# Altium integrated library Lattice FPGA ECP2.IntLib: 320 symbols (part 19 of 41)
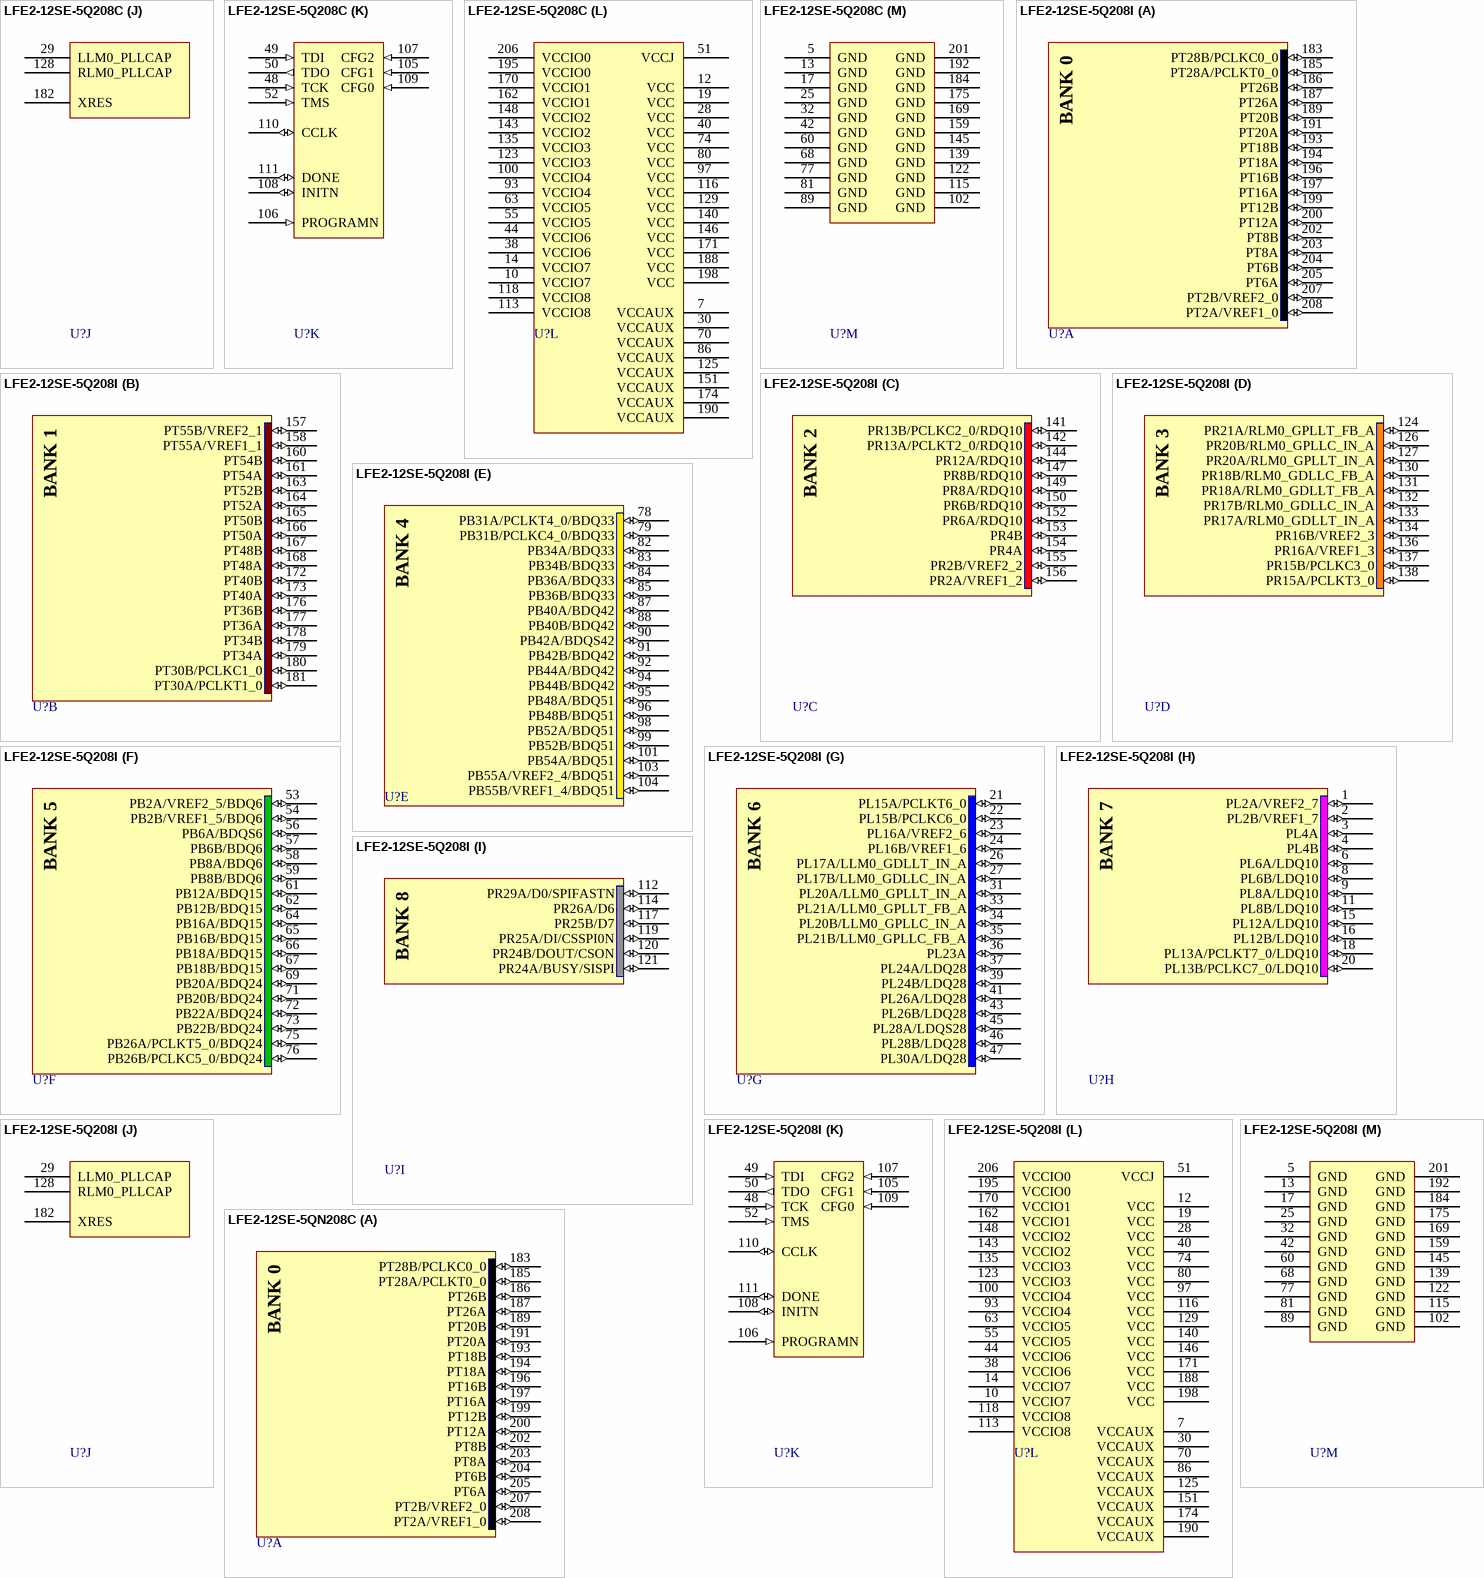
[diagram p409: symbols LFE2-12SE-5Q208C to LFE2-12SE-5QN208C]

## LFE2-12SE-5Q208C
designator U?
ECP2 1.2V FPGA, Security Series, 131 I/Os, 12K LUTs, 208-Pin PQFP, Speed Grade 5, Commercial Grade; DatasheetVersion: ver04.3, Mar-2009; PackageVersion: ver01.8, Dec-2008; PackageReference: PQFP208; PackageDescription: 208-Pin Plastic Quad Flat Pack (PQFP208); Code_JEDEC: MO-143-FAI; ComponentLink1Description: Manufacturer URL; ComponentLink1URL: http://www.latticesemi.com/; ComponentLink2Description: Datasheet; ComponentLink2URL: http://www.latticesemi.com/documents/HB1003.pdf
footprint PQFP208_N (Shrink QFP, 208-Leads, Body 28x28mm, Pitch 0.5mm, IPC Medium Density)
footprint PQFP208_L (Shrink QFP, 208-Leads, Body 28x28mm, Pitch 0.5mm, IPC High Density)
footprint PQFP208_M (Shrink QFP, 208-Leads, Body 28x28mm, Pitch 0.5mm, IPC Low Density)
part A pins: 183 PT28B/PCLKC0_0 (io), 185 PT28A/PCLKT0_0 (io), 186 PT26B (io), 187 PT26A (io), 189 PT20B (io), 191 PT20A (io), 193 PT18B (io), 194 PT18A (io), 196 PT16B (io), 197 PT16A (io), 199 PT12B (io), 200 PT12A (io), 202 PT8B (io), 203 PT8A (io), 204 PT6B (io), 205 PT6A (io), 207 PT2B/VREF2_0 (io), 208 PT2A/VREF1_0 (io)
part B pins: 157 PT55B/VREF2_1 (io), 158 PT55A/VREF1_1 (io), 160 PT54B (io), 161 PT54A (io), 163 PT52B (io), 164 PT52A (io), 165 PT50B (io), 166 PT50A (io), 167 PT48B (io), 168 PT48A (io), 172 PT40B (io), 173 PT40A (io), 176 PT36B (io), 177 PT36A (io), 178 PT34B (io), 179 PT34A (io), 180 PT30B/PCLKC1_0 (io), 181 PT30A/PCLKT1_0 (io)
part C pins: 141 PR13B/PCLKC2_0/RDQ10 (io), 142 PR13A/PCLKT2_0/RDQ10 (io), 144 PR12A/RDQ10 (io), 147 PR8B/RDQ10 (io), 149 PR8A/RDQ10 (io), 150 PR6B/RDQ10 (io), 152 PR6A/RDQ10 (io), 153 PR4B (io), 154 PR4A (io), 155 PR2B/VREF2_2 (io), 156 PR2A/VREF1_2 (io)
part D pins: 124 PR21A/RLM0_GPLLT_FB_A (io), 126 PR20B/RLM0_GPLLC_IN_A (io), 127 PR20A/RLM0_GPLLT_IN_A (io), 130 PR18B/RLM0_GDLLC_FB_A (io), 131 PR18A/RLM0_GDLLT_FB_A (io), 132 PR17B/RLM0_GDLLC_IN_A (io), 133 PR17A/RLM0_GDLLT_IN_A (io), 134 PR16B/VREF2_3 (io), 136 PR16A/VREF1_3 (io), 137 PR15B/PCLKC3_0 (io), 138 PR15A/PCLKT3_0 (io)
part E pins: 78 PB31A/PCLKT4_0/BDQ33 (io), 79 PB31B/PCLKC4_0/BDQ33 (io), 82 PB34A/BDQ33 (io), 83 PB34B/BDQ33 (io), 84 PB36A/BDQ33 (io), 85 PB36B/BDQ33 (io), 87 PB40A/BDQ42 (io), 88 PB40B/BDQ42 (io), 90 PB42A/BDQS42 (io), 91 PB42B/BDQ42 (io), 92 PB44A/BDQ42 (io), 94 PB44B/BDQ42 (io), 95 PB48A/BDQ51 (io), 96 PB48B/BDQ51 (io), 98 PB52A/BDQ51 (io), 99 PB52B/BDQ51 (io), 101 PB54A/BDQ51 (io), 103 PB55A/VREF2_4/BDQ51 (io), 104 PB55B/VREF1_4/BDQ51 (io)
part F pins: 53 PB2A/VREF2_5/BDQ6 (io), 54 PB2B/VREF1_5/BDQ6 (io), 56 PB6A/BDQS6 (io), 57 PB6B/BDQ6 (io), 58 PB8A/BDQ6 (io), 59 PB8B/BDQ6 (io), 61 PB12A/BDQ15 (io), 62 PB12B/BDQ15 (io), 64 PB16A/BDQ15 (io), 65 PB16B/BDQ15 (io), 66 PB18A/BDQ15 (io), 67 PB18B/BDQ15 (io), 69 PB20A/BDQ24 (io), 71 PB20B/BDQ24 (io), 72 PB22A/BDQ24 (io), 73 PB22B/BDQ24 (io), 75 PB26A/PCLKT5_0/BDQ24 (io), 76 PB26B/PCLKC5_0/BDQ24 (io)
part G pins: 21 PL15A/PCLKT6_0 (io), 22 PL15B/PCLKC6_0 (io), 23 PL16A/VREF2_6 (io), 24 PL16B/VREF1_6 (io), 26 PL17A/LLM0_GDLLT_IN_A (io), 27 PL17B/LLM0_GDLLC_IN_A (io), 31 PL20A/LLM0_GPLLT_IN_A (io), 33 PL21A/LLM0_GPLLT_FB_A (io), 34 PL20B/LLM0_GPLLC_IN_A (io), 35 PL21B/LLM0_GPLLC_FB_A (io), 36 PL23A (io), 37 PL24A/LDQ28 (io), 39 PL24B/LDQ28 (io), 41 PL26A/LDQ28 (io), 43 PL26B/LDQ28 (io), 45 PL28A/LDQS28 (io), 46 PL28B/LDQ28 (io), 47 PL30A/LDQ28 (io)
part H pins: 1 PL2A/VREF2_7 (io), 2 PL2B/VREF1_7 (io), 3 PL4A (io), 4 PL4B (io), 6 PL6A/LDQ10 (io), 8 PL6B/LDQ10 (io), 9 PL8A/LDQ10 (io), 11 PL8B/LDQ10 (io), 15 PL12A/LDQ10 (io), 16 PL12B/LDQ10 (io), 18 PL13A/PCLKT7_0/LDQ10 (io), 20 PL13B/PCLKC7_0/LDQ10 (io)
part I pins: 112 PR29A/D0/SPIFASTN (io), 114 PR26A/D6 (io), 117 PR25B/D7 (io), 119 PR25A/DI/CSSPI0N (io), 120 PR24B/DOUT/CSON (io), 121 PR24A/BUSY/SISPI (io)
part J pins: 29 LLM0_PLLCAP, 128 RLM0_PLLCAP, 182 XRES
part K pins: 48 TCK (in), 49 TDI (in), 50 TDO (out), 52 TMS (in), 105 CFG1 (in), 106 PROGRAMN (in), 107 CFG2 (in), 108 INITN (io), 109 CFG0 (in), 110 CCLK (io), 111 DONE (io)
part L pins: 7 VCCAUX (power), 10 VCCIO7 (power), 12 VCC (power), 14 VCCIO7 (power), 19 VCC (power), 28 VCC (power), 30 VCCAUX (power), 38 VCCIO6 (power), 40 VCC (power), 44 VCCIO6 (power), 51 VCCJ (power), 55 VCCIO5 (power), 63 VCCIO5 (power), 70 VCCAUX (power), 74 VCC (power), 80 VCC (power), 86 VCCAUX (power), 93 VCCIO4 (power), 97 VCC (power), 100 VCCIO4 (power), 113 VCCIO8 (power), 116 VCC (power), 118 VCCIO8 (power), 123 VCCIO3 (power), 125 VCCAUX (power), 129 VCC (power), 135 VCCIO3 (power), 140 VCC (power), 143 VCCIO2 (power), 146 VCC (power), 148 VCCIO2 (power), 151 VCCAUX (power), 162 VCCIO1 (power), 170 VCCIO1 (power), 171 VCC (power), 174 VCCAUX (power), 188 VCC (power), 190 VCCAUX (power), 195 VCCIO0 (power), 198 VCC (power), 206 VCCIO0 (power)
part M pins: 5 GND (power), 13 GND (power), 17 GND (power), 25 GND (power), 32 GND (power), 42 GND (power), 60 GND (power), 68 GND (power), 77 GND (power), 81 GND (power), 89 GND (power), 102 GND (power), 115 GND (power), 122 GND (power), 139 GND (power), 145 GND (power), 159 GND (power), 169 GND (power), 175 GND (power), 184 GND (power), 192 GND (power), 201 GND (power)
part A text: BANK 0
part B text: BANK 1
part C text: BANK 2
part D text: BANK 3
part E text: BANK 4
part F text: BANK 5
part G text: BANK 6
part H text: BANK 7
part I text: BANK 8

## LFE2-12SE-5Q208I
designator U?
ECP2 1.2V FPGA, Security Series, 131 I/Os, 12K LUTs, 208-Pin PQFP, Speed Grade 5, Industrial Grade; DatasheetVersion: ver04.3, Mar-2009; PackageVersion: ver01.8, Dec-2008; PackageReference: PQFP208; PackageDescription: 208-Pin Plastic Quad Flat Pack (PQFP208); Code_JEDEC: MO-143-FAI; ComponentLink1Description: Manufacturer URL; ComponentLink1URL: http://www.latticesemi.com/; ComponentLink2Description: Datasheet; ComponentLink2URL: http://www.latticesemi.com/documents/HB1003.pdf
footprint PQFP208_N (Shrink QFP, 208-Leads, Body 28x28mm, Pitch 0.5mm, IPC Medium Density)
footprint PQFP208_L (Shrink QFP, 208-Leads, Body 28x28mm, Pitch 0.5mm, IPC High Density)
footprint PQFP208_M (Shrink QFP, 208-Leads, Body 28x28mm, Pitch 0.5mm, IPC Low Density)
part A pins: 183 PT28B/PCLKC0_0 (io), 185 PT28A/PCLKT0_0 (io), 186 PT26B (io), 187 PT26A (io), 189 PT20B (io), 191 PT20A (io), 193 PT18B (io), 194 PT18A (io), 196 PT16B (io), 197 PT16A (io), 199 PT12B (io), 200 PT12A (io), 202 PT8B (io), 203 PT8A (io), 204 PT6B (io), 205 PT6A (io), 207 PT2B/VREF2_0 (io), 208 PT2A/VREF1_0 (io)
part B pins: 157 PT55B/VREF2_1 (io), 158 PT55A/VREF1_1 (io), 160 PT54B (io), 161 PT54A (io), 163 PT52B (io), 164 PT52A (io), 165 PT50B (io), 166 PT50A (io), 167 PT48B (io), 168 PT48A (io), 172 PT40B (io), 173 PT40A (io), 176 PT36B (io), 177 PT36A (io), 178 PT34B (io), 179 PT34A (io), 180 PT30B/PCLKC1_0 (io), 181 PT30A/PCLKT1_0 (io)
part C pins: 141 PR13B/PCLKC2_0/RDQ10 (io), 142 PR13A/PCLKT2_0/RDQ10 (io), 144 PR12A/RDQ10 (io), 147 PR8B/RDQ10 (io), 149 PR8A/RDQ10 (io), 150 PR6B/RDQ10 (io), 152 PR6A/RDQ10 (io), 153 PR4B (io), 154 PR4A (io), 155 PR2B/VREF2_2 (io), 156 PR2A/VREF1_2 (io)
part D pins: 124 PR21A/RLM0_GPLLT_FB_A (io), 126 PR20B/RLM0_GPLLC_IN_A (io), 127 PR20A/RLM0_GPLLT_IN_A (io), 130 PR18B/RLM0_GDLLC_FB_A (io), 131 PR18A/RLM0_GDLLT_FB_A (io), 132 PR17B/RLM0_GDLLC_IN_A (io), 133 PR17A/RLM0_GDLLT_IN_A (io), 134 PR16B/VREF2_3 (io), 136 PR16A/VREF1_3 (io), 137 PR15B/PCLKC3_0 (io), 138 PR15A/PCLKT3_0 (io)
part E pins: 78 PB31A/PCLKT4_0/BDQ33 (io), 79 PB31B/PCLKC4_0/BDQ33 (io), 82 PB34A/BDQ33 (io), 83 PB34B/BDQ33 (io), 84 PB36A/BDQ33 (io), 85 PB36B/BDQ33 (io), 87 PB40A/BDQ42 (io), 88 PB40B/BDQ42 (io), 90 PB42A/BDQS42 (io), 91 PB42B/BDQ42 (io), 92 PB44A/BDQ42 (io), 94 PB44B/BDQ42 (io), 95 PB48A/BDQ51 (io), 96 PB48B/BDQ51 (io), 98 PB52A/BDQ51 (io), 99 PB52B/BDQ51 (io), 101 PB54A/BDQ51 (io), 103 PB55A/VREF2_4/BDQ51 (io), 104 PB55B/VREF1_4/BDQ51 (io)
part F pins: 53 PB2A/VREF2_5/BDQ6 (io), 54 PB2B/VREF1_5/BDQ6 (io), 56 PB6A/BDQS6 (io), 57 PB6B/BDQ6 (io), 58 PB8A/BDQ6 (io), 59 PB8B/BDQ6 (io), 61 PB12A/BDQ15 (io), 62 PB12B/BDQ15 (io), 64 PB16A/BDQ15 (io), 65 PB16B/BDQ15 (io), 66 PB18A/BDQ15 (io), 67 PB18B/BDQ15 (io), 69 PB20A/BDQ24 (io), 71 PB20B/BDQ24 (io), 72 PB22A/BDQ24 (io), 73 PB22B/BDQ24 (io), 75 PB26A/PCLKT5_0/BDQ24 (io), 76 PB26B/PCLKC5_0/BDQ24 (io)
part G pins: 21 PL15A/PCLKT6_0 (io), 22 PL15B/PCLKC6_0 (io), 23 PL16A/VREF2_6 (io), 24 PL16B/VREF1_6 (io), 26 PL17A/LLM0_GDLLT_IN_A (io), 27 PL17B/LLM0_GDLLC_IN_A (io), 31 PL20A/LLM0_GPLLT_IN_A (io), 33 PL21A/LLM0_GPLLT_FB_A (io), 34 PL20B/LLM0_GPLLC_IN_A (io), 35 PL21B/LLM0_GPLLC_FB_A (io), 36 PL23A (io), 37 PL24A/LDQ28 (io), 39 PL24B/LDQ28 (io), 41 PL26A/LDQ28 (io), 43 PL26B/LDQ28 (io), 45 PL28A/LDQS28 (io), 46 PL28B/LDQ28 (io), 47 PL30A/LDQ28 (io)
part H pins: 1 PL2A/VREF2_7 (io), 2 PL2B/VREF1_7 (io), 3 PL4A (io), 4 PL4B (io), 6 PL6A/LDQ10 (io), 8 PL6B/LDQ10 (io), 9 PL8A/LDQ10 (io), 11 PL8B/LDQ10 (io), 15 PL12A/LDQ10 (io), 16 PL12B/LDQ10 (io), 18 PL13A/PCLKT7_0/LDQ10 (io), 20 PL13B/PCLKC7_0/LDQ10 (io)
part I pins: 112 PR29A/D0/SPIFASTN (io), 114 PR26A/D6 (io), 117 PR25B/D7 (io), 119 PR25A/DI/CSSPI0N (io), 120 PR24B/DOUT/CSON (io), 121 PR24A/BUSY/SISPI (io)
part J pins: 29 LLM0_PLLCAP, 128 RLM0_PLLCAP, 182 XRES
part K pins: 48 TCK (in), 49 TDI (in), 50 TDO (out), 52 TMS (in), 105 CFG1 (in), 106 PROGRAMN (in), 107 CFG2 (in), 108 INITN (io), 109 CFG0 (in), 110 CCLK (io), 111 DONE (io)
part L pins: 7 VCCAUX (power), 10 VCCIO7 (power), 12 VCC (power), 14 VCCIO7 (power), 19 VCC (power), 28 VCC (power), 30 VCCAUX (power), 38 VCCIO6 (power), 40 VCC (power), 44 VCCIO6 (power), 51 VCCJ (power), 55 VCCIO5 (power), 63 VCCIO5 (power), 70 VCCAUX (power), 74 VCC (power), 80 VCC (power), 86 VCCAUX (power), 93 VCCIO4 (power), 97 VCC (power), 100 VCCIO4 (power), 113 VCCIO8 (power), 116 VCC (power), 118 VCCIO8 (power), 123 VCCIO3 (power), 125 VCCAUX (power), 129 VCC (power), 135 VCCIO3 (power), 140 VCC (power), 143 VCCIO2 (power), 146 VCC (power), 148 VCCIO2 (power), 151 VCCAUX (power), 162 VCCIO1 (power), 170 VCCIO1 (power), 171 VCC (power), 174 VCCAUX (power), 188 VCC (power), 190 VCCAUX (power), 195 VCCIO0 (power), 198 VCC (power), 206 VCCIO0 (power)
part M pins: 5 GND (power), 13 GND (power), 17 GND (power), 25 GND (power), 32 GND (power), 42 GND (power), 60 GND (power), 68 GND (power), 77 GND (power), 81 GND (power), 89 GND (power), 102 GND (power), 115 GND (power), 122 GND (power), 139 GND (power), 145 GND (power), 159 GND (power), 169 GND (power), 175 GND (power), 184 GND (power), 192 GND (power), 201 GND (power)
part A text: BANK 0
part B text: BANK 1
part C text: BANK 2
part D text: BANK 3
part E text: BANK 4
part F text: BANK 5
part G text: BANK 6
part H text: BANK 7
part I text: BANK 8

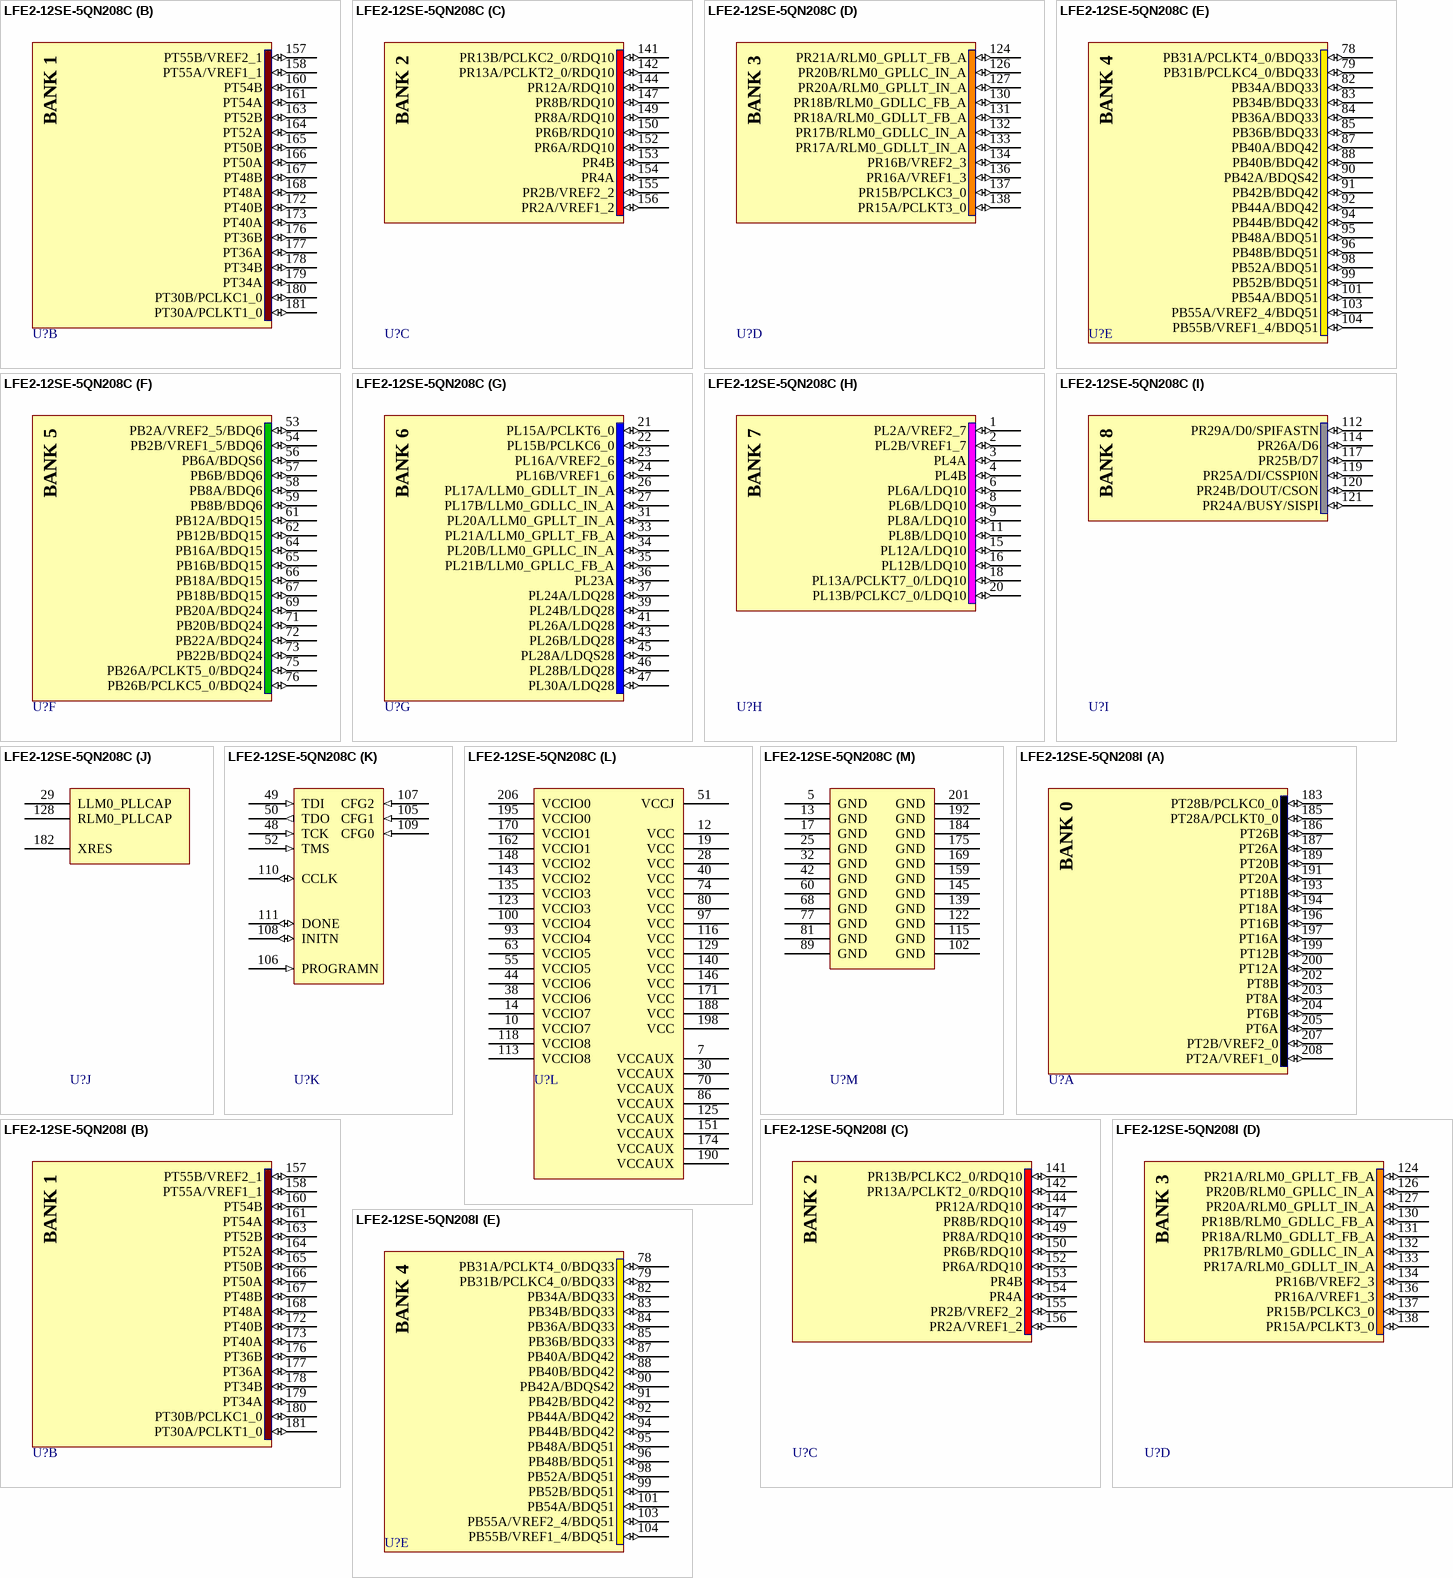
[diagram p99: symbols LFE2-12SE-5QN208C to LFE2-12SE-5QN208I]

## LFE2-12SE-5QN208C
designator U?
ECP2 1.2V FPGA, Security Series, 131 I/Os, 12K LUTs, 208-Pin PQFP, Speed Grade 5, Commercial Grade, Pb-Free; DatasheetVersion: ver04.3, Mar-2009; PackageVersion: ver01.8, Dec-2008; PackageReference: PQFP208; PackageDescription: 208-Pin Plastic Quad Flat Pack (PQFP208); Code_JEDEC: MO-143-FAI; ComponentLink1Description: Manufacturer URL; ComponentLink1URL: http://www.latticesemi.com/; ComponentLink2Description: Datasheet; ComponentLink2URL: http://www.latticesemi.com/documents/HB1003.pdf
footprint PQFP208_N (Shrink QFP, 208-Leads, Body 28x28mm, Pitch 0.5mm, IPC Medium Density)
footprint PQFP208_L (Shrink QFP, 208-Leads, Body 28x28mm, Pitch 0.5mm, IPC High Density)
footprint PQFP208_M (Shrink QFP, 208-Leads, Body 28x28mm, Pitch 0.5mm, IPC Low Density)
part A pins: 183 PT28B/PCLKC0_0 (io), 185 PT28A/PCLKT0_0 (io), 186 PT26B (io), 187 PT26A (io), 189 PT20B (io), 191 PT20A (io), 193 PT18B (io), 194 PT18A (io), 196 PT16B (io), 197 PT16A (io), 199 PT12B (io), 200 PT12A (io), 202 PT8B (io), 203 PT8A (io), 204 PT6B (io), 205 PT6A (io), 207 PT2B/VREF2_0 (io), 208 PT2A/VREF1_0 (io)
part B pins: 157 PT55B/VREF2_1 (io), 158 PT55A/VREF1_1 (io), 160 PT54B (io), 161 PT54A (io), 163 PT52B (io), 164 PT52A (io), 165 PT50B (io), 166 PT50A (io), 167 PT48B (io), 168 PT48A (io), 172 PT40B (io), 173 PT40A (io), 176 PT36B (io), 177 PT36A (io), 178 PT34B (io), 179 PT34A (io), 180 PT30B/PCLKC1_0 (io), 181 PT30A/PCLKT1_0 (io)
part C pins: 141 PR13B/PCLKC2_0/RDQ10 (io), 142 PR13A/PCLKT2_0/RDQ10 (io), 144 PR12A/RDQ10 (io), 147 PR8B/RDQ10 (io), 149 PR8A/RDQ10 (io), 150 PR6B/RDQ10 (io), 152 PR6A/RDQ10 (io), 153 PR4B (io), 154 PR4A (io), 155 PR2B/VREF2_2 (io), 156 PR2A/VREF1_2 (io)
part D pins: 124 PR21A/RLM0_GPLLT_FB_A (io), 126 PR20B/RLM0_GPLLC_IN_A (io), 127 PR20A/RLM0_GPLLT_IN_A (io), 130 PR18B/RLM0_GDLLC_FB_A (io), 131 PR18A/RLM0_GDLLT_FB_A (io), 132 PR17B/RLM0_GDLLC_IN_A (io), 133 PR17A/RLM0_GDLLT_IN_A (io), 134 PR16B/VREF2_3 (io), 136 PR16A/VREF1_3 (io), 137 PR15B/PCLKC3_0 (io), 138 PR15A/PCLKT3_0 (io)
part E pins: 78 PB31A/PCLKT4_0/BDQ33 (io), 79 PB31B/PCLKC4_0/BDQ33 (io), 82 PB34A/BDQ33 (io), 83 PB34B/BDQ33 (io), 84 PB36A/BDQ33 (io), 85 PB36B/BDQ33 (io), 87 PB40A/BDQ42 (io), 88 PB40B/BDQ42 (io), 90 PB42A/BDQS42 (io), 91 PB42B/BDQ42 (io), 92 PB44A/BDQ42 (io), 94 PB44B/BDQ42 (io), 95 PB48A/BDQ51 (io), 96 PB48B/BDQ51 (io), 98 PB52A/BDQ51 (io), 99 PB52B/BDQ51 (io), 101 PB54A/BDQ51 (io), 103 PB55A/VREF2_4/BDQ51 (io), 104 PB55B/VREF1_4/BDQ51 (io)
part F pins: 53 PB2A/VREF2_5/BDQ6 (io), 54 PB2B/VREF1_5/BDQ6 (io), 56 PB6A/BDQS6 (io), 57 PB6B/BDQ6 (io), 58 PB8A/BDQ6 (io), 59 PB8B/BDQ6 (io), 61 PB12A/BDQ15 (io), 62 PB12B/BDQ15 (io), 64 PB16A/BDQ15 (io), 65 PB16B/BDQ15 (io), 66 PB18A/BDQ15 (io), 67 PB18B/BDQ15 (io), 69 PB20A/BDQ24 (io), 71 PB20B/BDQ24 (io), 72 PB22A/BDQ24 (io), 73 PB22B/BDQ24 (io), 75 PB26A/PCLKT5_0/BDQ24 (io), 76 PB26B/PCLKC5_0/BDQ24 (io)
part G pins: 21 PL15A/PCLKT6_0 (io), 22 PL15B/PCLKC6_0 (io), 23 PL16A/VREF2_6 (io), 24 PL16B/VREF1_6 (io), 26 PL17A/LLM0_GDLLT_IN_A (io), 27 PL17B/LLM0_GDLLC_IN_A (io), 31 PL20A/LLM0_GPLLT_IN_A (io), 33 PL21A/LLM0_GPLLT_FB_A (io), 34 PL20B/LLM0_GPLLC_IN_A (io), 35 PL21B/LLM0_GPLLC_FB_A (io), 36 PL23A (io), 37 PL24A/LDQ28 (io), 39 PL24B/LDQ28 (io), 41 PL26A/LDQ28 (io), 43 PL26B/LDQ28 (io), 45 PL28A/LDQS28 (io), 46 PL28B/LDQ28 (io), 47 PL30A/LDQ28 (io)
part H pins: 1 PL2A/VREF2_7 (io), 2 PL2B/VREF1_7 (io), 3 PL4A (io), 4 PL4B (io), 6 PL6A/LDQ10 (io), 8 PL6B/LDQ10 (io), 9 PL8A/LDQ10 (io), 11 PL8B/LDQ10 (io), 15 PL12A/LDQ10 (io), 16 PL12B/LDQ10 (io), 18 PL13A/PCLKT7_0/LDQ10 (io), 20 PL13B/PCLKC7_0/LDQ10 (io)
part I pins: 112 PR29A/D0/SPIFASTN (io), 114 PR26A/D6 (io), 117 PR25B/D7 (io), 119 PR25A/DI/CSSPI0N (io), 120 PR24B/DOUT/CSON (io), 121 PR24A/BUSY/SISPI (io)
part J pins: 29 LLM0_PLLCAP, 128 RLM0_PLLCAP, 182 XRES
part K pins: 48 TCK (in), 49 TDI (in), 50 TDO (out), 52 TMS (in), 105 CFG1 (in), 106 PROGRAMN (in), 107 CFG2 (in), 108 INITN (io), 109 CFG0 (in), 110 CCLK (io), 111 DONE (io)
part L pins: 7 VCCAUX (power), 10 VCCIO7 (power), 12 VCC (power), 14 VCCIO7 (power), 19 VCC (power), 28 VCC (power), 30 VCCAUX (power), 38 VCCIO6 (power), 40 VCC (power), 44 VCCIO6 (power), 51 VCCJ (power), 55 VCCIO5 (power), 63 VCCIO5 (power), 70 VCCAUX (power), 74 VCC (power), 80 VCC (power), 86 VCCAUX (power), 93 VCCIO4 (power), 97 VCC (power), 100 VCCIO4 (power), 113 VCCIO8 (power), 116 VCC (power), 118 VCCIO8 (power), 123 VCCIO3 (power), 125 VCCAUX (power), 129 VCC (power), 135 VCCIO3 (power), 140 VCC (power), 143 VCCIO2 (power), 146 VCC (power), 148 VCCIO2 (power), 151 VCCAUX (power), 162 VCCIO1 (power), 170 VCCIO1 (power), 171 VCC (power), 174 VCCAUX (power), 188 VCC (power), 190 VCCAUX (power), 195 VCCIO0 (power), 198 VCC (power), 206 VCCIO0 (power)
part M pins: 5 GND (power), 13 GND (power), 17 GND (power), 25 GND (power), 32 GND (power), 42 GND (power), 60 GND (power), 68 GND (power), 77 GND (power), 81 GND (power), 89 GND (power), 102 GND (power), 115 GND (power), 122 GND (power), 139 GND (power), 145 GND (power), 159 GND (power), 169 GND (power), 175 GND (power), 184 GND (power), 192 GND (power), 201 GND (power)
part A text: BANK 0
part B text: BANK 1
part C text: BANK 2
part D text: BANK 3
part E text: BANK 4
part F text: BANK 5
part G text: BANK 6
part H text: BANK 7
part I text: BANK 8

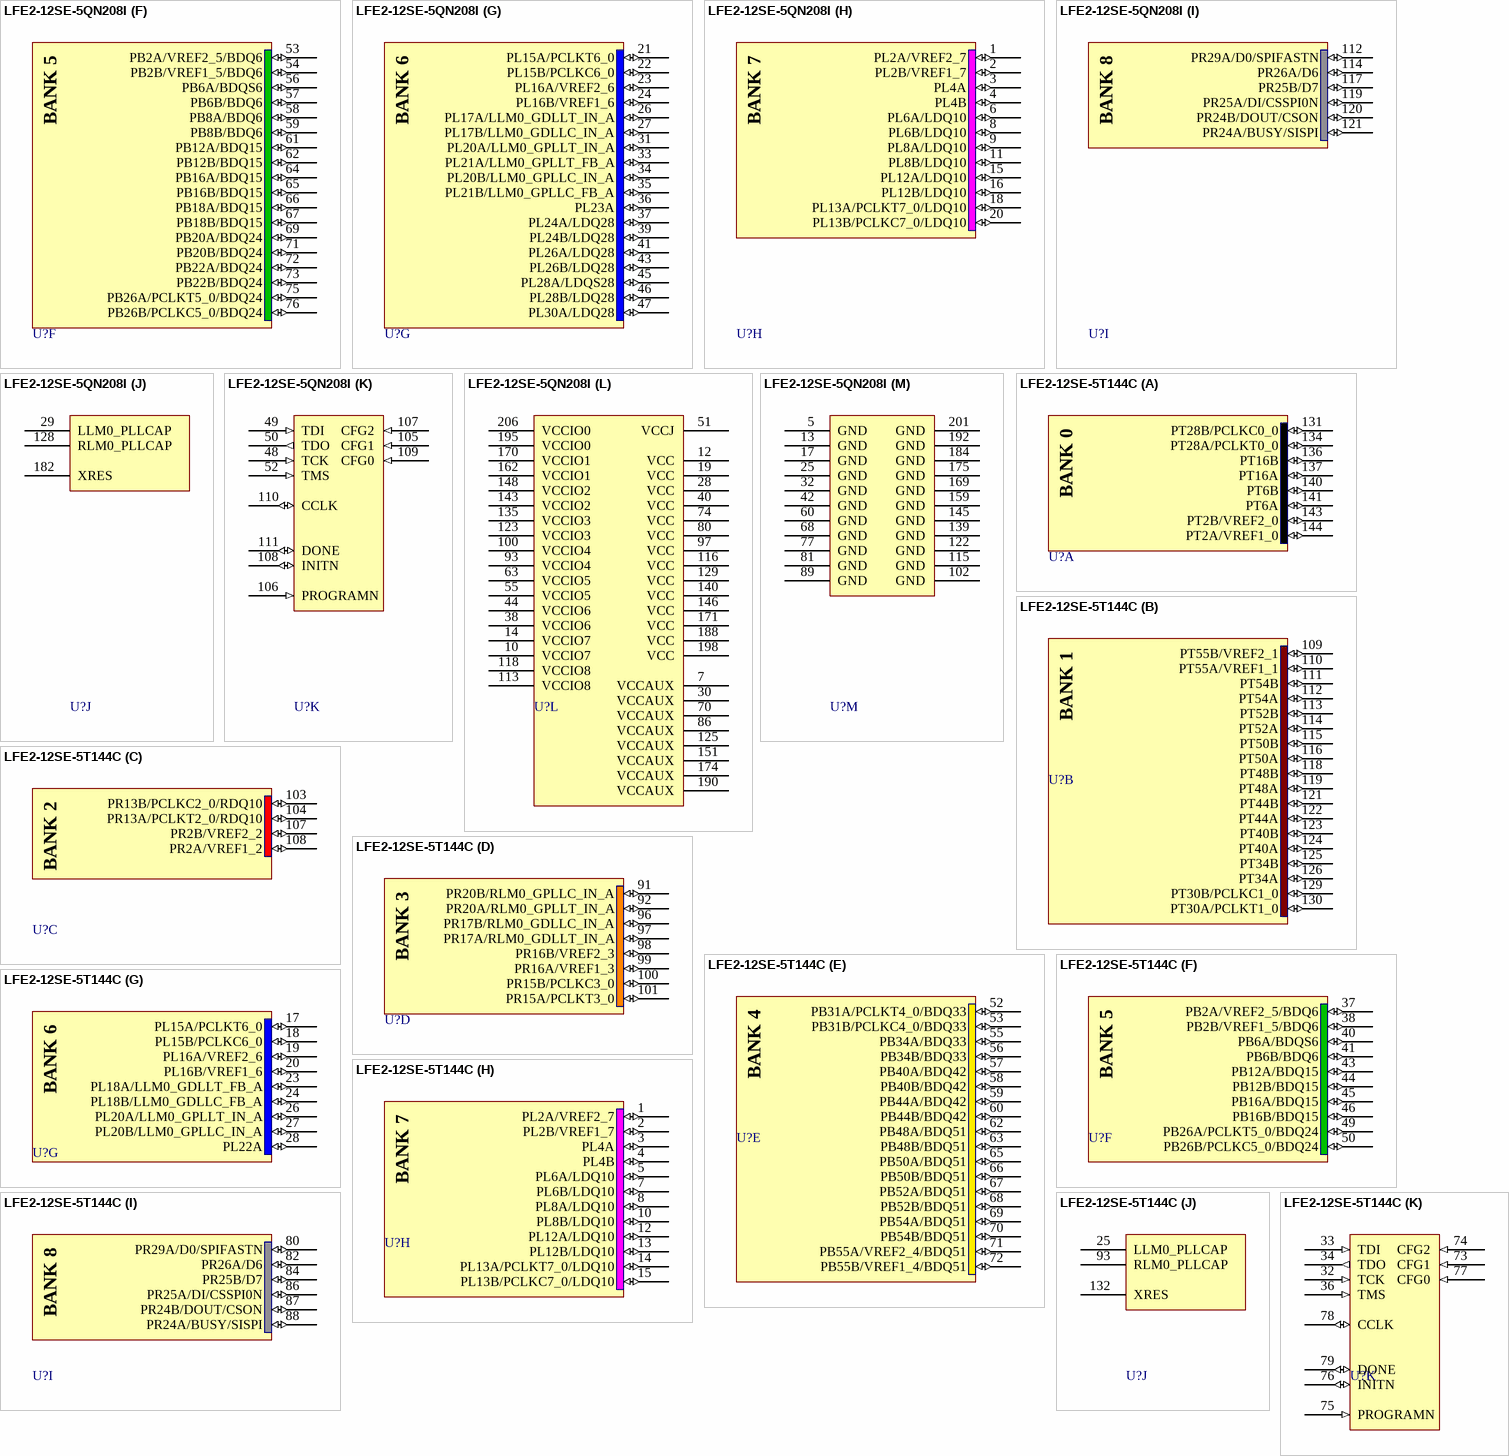
[diagram p100: symbols LFE2-12SE-5QN208I to LFE2-12SE-5T144C]

## LFE2-12SE-5QN208I
designator U?
ECP2 1.2V FPGA, Security Series, 131 I/Os, 12K LUTs, 208-Pin PQFP, Speed Grade 5, Industrial Grade, Pb-Free; DatasheetVersion: ver04.3, Mar-2009; PackageVersion: ver01.8, Dec-2008; PackageReference: PQFP208; PackageDescription: 208-Pin Plastic Quad Flat Pack (PQFP208); Code_JEDEC: MO-143-FAI; ComponentLink1Description: Manufacturer URL; ComponentLink1URL: http://www.latticesemi.com/; ComponentLink2Description: Datasheet; ComponentLink2URL: http://www.latticesemi.com/documents/HB1003.pdf
footprint PQFP208_N (Shrink QFP, 208-Leads, Body 28x28mm, Pitch 0.5mm, IPC Medium Density)
footprint PQFP208_L (Shrink QFP, 208-Leads, Body 28x28mm, Pitch 0.5mm, IPC High Density)
footprint PQFP208_M (Shrink QFP, 208-Leads, Body 28x28mm, Pitch 0.5mm, IPC Low Density)
part A pins: 183 PT28B/PCLKC0_0 (io), 185 PT28A/PCLKT0_0 (io), 186 PT26B (io), 187 PT26A (io), 189 PT20B (io), 191 PT20A (io), 193 PT18B (io), 194 PT18A (io), 196 PT16B (io), 197 PT16A (io), 199 PT12B (io), 200 PT12A (io), 202 PT8B (io), 203 PT8A (io), 204 PT6B (io), 205 PT6A (io), 207 PT2B/VREF2_0 (io), 208 PT2A/VREF1_0 (io)
part B pins: 157 PT55B/VREF2_1 (io), 158 PT55A/VREF1_1 (io), 160 PT54B (io), 161 PT54A (io), 163 PT52B (io), 164 PT52A (io), 165 PT50B (io), 166 PT50A (io), 167 PT48B (io), 168 PT48A (io), 172 PT40B (io), 173 PT40A (io), 176 PT36B (io), 177 PT36A (io), 178 PT34B (io), 179 PT34A (io), 180 PT30B/PCLKC1_0 (io), 181 PT30A/PCLKT1_0 (io)
part C pins: 141 PR13B/PCLKC2_0/RDQ10 (io), 142 PR13A/PCLKT2_0/RDQ10 (io), 144 PR12A/RDQ10 (io), 147 PR8B/RDQ10 (io), 149 PR8A/RDQ10 (io), 150 PR6B/RDQ10 (io), 152 PR6A/RDQ10 (io), 153 PR4B (io), 154 PR4A (io), 155 PR2B/VREF2_2 (io), 156 PR2A/VREF1_2 (io)
part D pins: 124 PR21A/RLM0_GPLLT_FB_A (io), 126 PR20B/RLM0_GPLLC_IN_A (io), 127 PR20A/RLM0_GPLLT_IN_A (io), 130 PR18B/RLM0_GDLLC_FB_A (io), 131 PR18A/RLM0_GDLLT_FB_A (io), 132 PR17B/RLM0_GDLLC_IN_A (io), 133 PR17A/RLM0_GDLLT_IN_A (io), 134 PR16B/VREF2_3 (io), 136 PR16A/VREF1_3 (io), 137 PR15B/PCLKC3_0 (io), 138 PR15A/PCLKT3_0 (io)
part E pins: 78 PB31A/PCLKT4_0/BDQ33 (io), 79 PB31B/PCLKC4_0/BDQ33 (io), 82 PB34A/BDQ33 (io), 83 PB34B/BDQ33 (io), 84 PB36A/BDQ33 (io), 85 PB36B/BDQ33 (io), 87 PB40A/BDQ42 (io), 88 PB40B/BDQ42 (io), 90 PB42A/BDQS42 (io), 91 PB42B/BDQ42 (io), 92 PB44A/BDQ42 (io), 94 PB44B/BDQ42 (io), 95 PB48A/BDQ51 (io), 96 PB48B/BDQ51 (io), 98 PB52A/BDQ51 (io), 99 PB52B/BDQ51 (io), 101 PB54A/BDQ51 (io), 103 PB55A/VREF2_4/BDQ51 (io), 104 PB55B/VREF1_4/BDQ51 (io)
part F pins: 53 PB2A/VREF2_5/BDQ6 (io), 54 PB2B/VREF1_5/BDQ6 (io), 56 PB6A/BDQS6 (io), 57 PB6B/BDQ6 (io), 58 PB8A/BDQ6 (io), 59 PB8B/BDQ6 (io), 61 PB12A/BDQ15 (io), 62 PB12B/BDQ15 (io), 64 PB16A/BDQ15 (io), 65 PB16B/BDQ15 (io), 66 PB18A/BDQ15 (io), 67 PB18B/BDQ15 (io), 69 PB20A/BDQ24 (io), 71 PB20B/BDQ24 (io), 72 PB22A/BDQ24 (io), 73 PB22B/BDQ24 (io), 75 PB26A/PCLKT5_0/BDQ24 (io), 76 PB26B/PCLKC5_0/BDQ24 (io)
part G pins: 21 PL15A/PCLKT6_0 (io), 22 PL15B/PCLKC6_0 (io), 23 PL16A/VREF2_6 (io), 24 PL16B/VREF1_6 (io), 26 PL17A/LLM0_GDLLT_IN_A (io), 27 PL17B/LLM0_GDLLC_IN_A (io), 31 PL20A/LLM0_GPLLT_IN_A (io), 33 PL21A/LLM0_GPLLT_FB_A (io), 34 PL20B/LLM0_GPLLC_IN_A (io), 35 PL21B/LLM0_GPLLC_FB_A (io), 36 PL23A (io), 37 PL24A/LDQ28 (io), 39 PL24B/LDQ28 (io), 41 PL26A/LDQ28 (io), 43 PL26B/LDQ28 (io), 45 PL28A/LDQS28 (io), 46 PL28B/LDQ28 (io), 47 PL30A/LDQ28 (io)
part H pins: 1 PL2A/VREF2_7 (io), 2 PL2B/VREF1_7 (io), 3 PL4A (io), 4 PL4B (io), 6 PL6A/LDQ10 (io), 8 PL6B/LDQ10 (io), 9 PL8A/LDQ10 (io), 11 PL8B/LDQ10 (io), 15 PL12A/LDQ10 (io), 16 PL12B/LDQ10 (io), 18 PL13A/PCLKT7_0/LDQ10 (io), 20 PL13B/PCLKC7_0/LDQ10 (io)
part I pins: 112 PR29A/D0/SPIFASTN (io), 114 PR26A/D6 (io), 117 PR25B/D7 (io), 119 PR25A/DI/CSSPI0N (io), 120 PR24B/DOUT/CSON (io), 121 PR24A/BUSY/SISPI (io)
part J pins: 29 LLM0_PLLCAP, 128 RLM0_PLLCAP, 182 XRES
part K pins: 48 TCK (in), 49 TDI (in), 50 TDO (out), 52 TMS (in), 105 CFG1 (in), 106 PROGRAMN (in), 107 CFG2 (in), 108 INITN (io), 109 CFG0 (in), 110 CCLK (io), 111 DONE (io)
part L pins: 7 VCCAUX (power), 10 VCCIO7 (power), 12 VCC (power), 14 VCCIO7 (power), 19 VCC (power), 28 VCC (power), 30 VCCAUX (power), 38 VCCIO6 (power), 40 VCC (power), 44 VCCIO6 (power), 51 VCCJ (power), 55 VCCIO5 (power), 63 VCCIO5 (power), 70 VCCAUX (power), 74 VCC (power), 80 VCC (power), 86 VCCAUX (power), 93 VCCIO4 (power), 97 VCC (power), 100 VCCIO4 (power), 113 VCCIO8 (power), 116 VCC (power), 118 VCCIO8 (power), 123 VCCIO3 (power), 125 VCCAUX (power), 129 VCC (power), 135 VCCIO3 (power), 140 VCC (power), 143 VCCIO2 (power), 146 VCC (power), 148 VCCIO2 (power), 151 VCCAUX (power), 162 VCCIO1 (power), 170 VCCIO1 (power), 171 VCC (power), 174 VCCAUX (power), 188 VCC (power), 190 VCCAUX (power), 195 VCCIO0 (power), 198 VCC (power), 206 VCCIO0 (power)
part M pins: 5 GND (power), 13 GND (power), 17 GND (power), 25 GND (power), 32 GND (power), 42 GND (power), 60 GND (power), 68 GND (power), 77 GND (power), 81 GND (power), 89 GND (power), 102 GND (power), 115 GND (power), 122 GND (power), 139 GND (power), 145 GND (power), 159 GND (power), 169 GND (power), 175 GND (power), 184 GND (power), 192 GND (power), 201 GND (power)
part A text: BANK 0
part B text: BANK 1
part C text: BANK 2
part D text: BANK 3
part E text: BANK 4
part F text: BANK 5
part G text: BANK 6
part H text: BANK 7
part I text: BANK 8

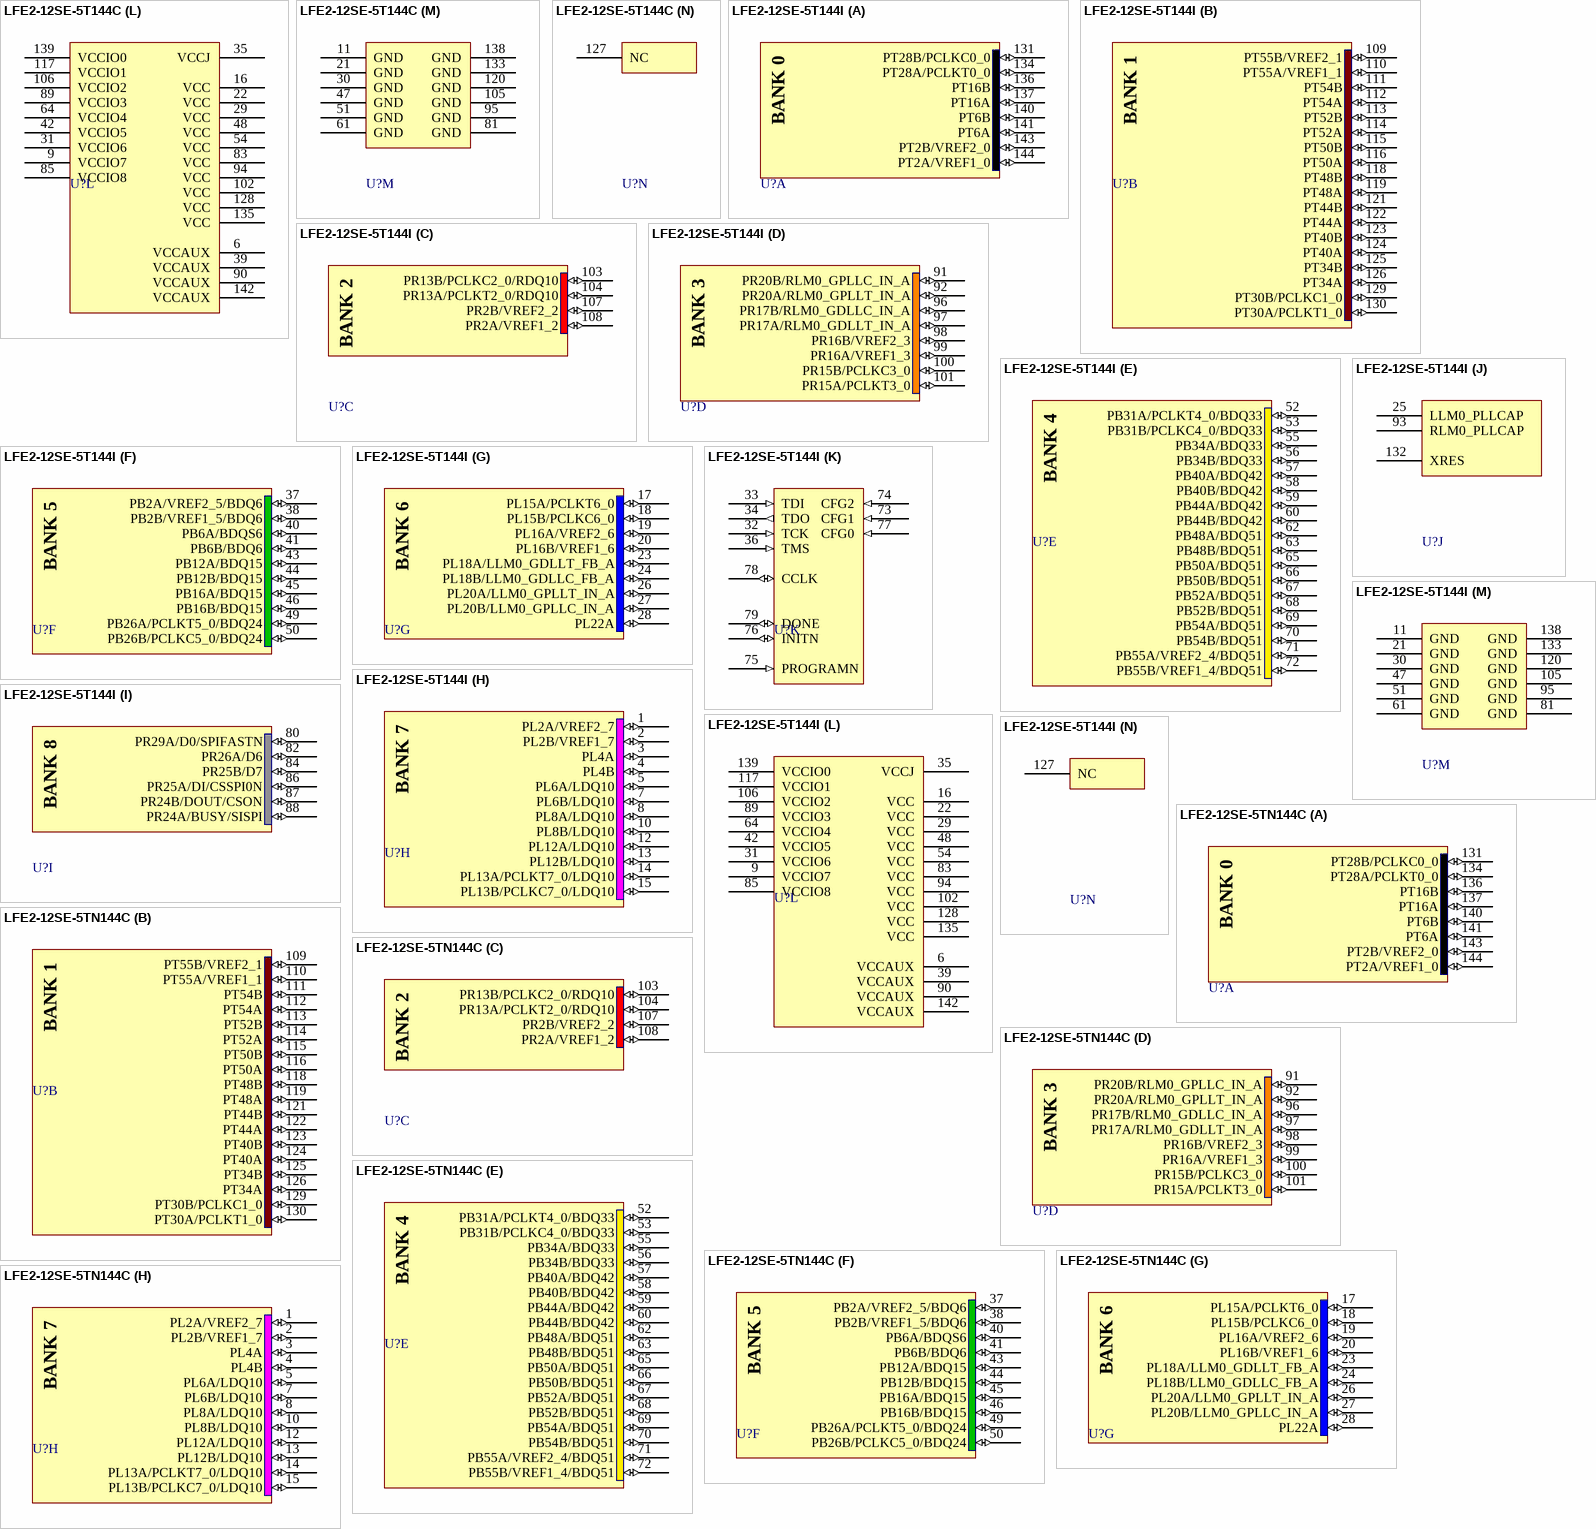
[diagram p101: symbols LFE2-12SE-5T144C to LFE2-12SE-5TN144C]

## LFE2-12SE-5T144C
designator U?
ECP2 1.2V FPGA, Security Series, 93 I/Os, 12K LUTs, 144-Pin TQFP, Speed Grade 5, Commercial Grade; DatasheetVersion: ver04.3, Mar-2009; PackageVersion: ver02.8, Jul-2011; PackageReference: TQFP144; PackageDescription: 144-Pin Thin Quad Flat Pack (TQFP144); Code_JEDEC: MS-026-BFB; ComponentLink1Description: Manufacturer URL; ComponentLink1URL: http://www.latticesemi.com/; ComponentLink2Description: Datasheet; ComponentLink2URL: http://www.latticesemi.com/documents/HB1003.pdf
footprint TQFP144_N (Thin QFP, 144-Leads, Body 20x20mm, Pitch 0.5mm, IPC Medium Density)
footprint TQFP144_L (Thin QFP, 144-Leads, Body 20x20mm, Pitch 0.5mm, IPC High Density)
footprint TQFP144_M (Thin QFP, 144-Leads, Body 20x20mm, Pitch 0.5mm, IPC Low Density)
part A pins: 131 PT28B/PCLKC0_0 (io), 134 PT28A/PCLKT0_0 (io), 136 PT16B (io), 137 PT16A (io), 140 PT6B (io), 141 PT6A (io), 143 PT2B/VREF2_0 (io), 144 PT2A/VREF1_0 (io)
part B pins: 109 PT55B/VREF2_1 (io), 110 PT55A/VREF1_1 (io), 111 PT54B (io), 112 PT54A (io), 113 PT52B (io), 114 PT52A (io), 115 PT50B (io), 116 PT50A (io), 118 PT48B (io), 119 PT48A (io), 121 PT44B (io), 122 PT44A (io), 123 PT40B (io), 124 PT40A (io), 125 PT34B (io), 126 PT34A (io), 129 PT30B/PCLKC1_0 (io), 130 PT30A/PCLKT1_0 (io)
part C pins: 103 PR13B/PCLKC2_0/RDQ10 (io), 104 PR13A/PCLKT2_0/RDQ10 (io), 107 PR2B/VREF2_2 (io), 108 PR2A/VREF1_2 (io)
part D pins: 91 PR20B/RLM0_GPLLC_IN_A (io), 92 PR20A/RLM0_GPLLT_IN_A (io), 96 PR17B/RLM0_GDLLC_IN_A (io), 97 PR17A/RLM0_GDLLT_IN_A (io), 98 PR16B/VREF2_3 (io), 99 PR16A/VREF1_3 (io), 100 PR15B/PCLKC3_0 (io), 101 PR15A/PCLKT3_0 (io)
part E pins: 52 PB31A/PCLKT4_0/BDQ33 (io), 53 PB31B/PCLKC4_0/BDQ33 (io), 55 PB34A/BDQ33 (io), 56 PB34B/BDQ33 (io), 57 PB40A/BDQ42 (io), 58 PB40B/BDQ42 (io), 59 PB44A/BDQ42 (io), 60 PB44B/BDQ42 (io), 62 PB48A/BDQ51 (io), 63 PB48B/BDQ51 (io), 65 PB50A/BDQ51 (io), 66 PB50B/BDQ51 (io), 67 PB52A/BDQ51 (io), 68 PB52B/BDQ51 (io), 69 PB54A/BDQ51 (io), 70 PB54B/BDQ51 (io), 71 PB55A/VREF2_4/BDQ51 (io), 72 PB55B/VREF1_4/BDQ51 (io)
part F pins: 37 PB2A/VREF2_5/BDQ6 (io), 38 PB2B/VREF1_5/BDQ6 (io), 40 PB6A/BDQS6 (io), 41 PB6B/BDQ6 (io), 43 PB12A/BDQ15 (io), 44 PB12B/BDQ15 (io), 45 PB16A/BDQ15 (io), 46 PB16B/BDQ15 (io), 49 PB26A/PCLKT5_0/BDQ24 (io), 50 PB26B/PCLKC5_0/BDQ24 (io)
part G pins: 17 PL15A/PCLKT6_0 (io), 18 PL15B/PCLKC6_0 (io), 19 PL16A/VREF2_6 (io), 20 PL16B/VREF1_6 (io), 23 PL18A/LLM0_GDLLT_FB_A (io), 24 PL18B/LLM0_GDLLC_FB_A (io), 26 PL20A/LLM0_GPLLT_IN_A (io), 27 PL20B/LLM0_GPLLC_IN_A (io), 28 PL22A (io)
part H pins: 1 PL2A/VREF2_7 (io), 2 PL2B/VREF1_7 (io), 3 PL4A (io), 4 PL4B (io), 5 PL6A/LDQ10 (io), 7 PL6B/LDQ10 (io), 8 PL8A/LDQ10 (io), 10 PL8B/LDQ10 (io), 12 PL12A/LDQ10 (io), 13 PL12B/LDQ10 (io), 14 PL13A/PCLKT7_0/LDQ10 (io), 15 PL13B/PCLKC7_0/LDQ10 (io)
part I pins: 80 PR29A/D0/SPIFASTN (io), 82 PR26A/D6 (io), 84 PR25B/D7 (io), 86 PR25A/DI/CSSPI0N (io), 87 PR24B/DOUT/CSON (io), 88 PR24A/BUSY/SISPI (io)
part J pins: 25 LLM0_PLLCAP, 93 RLM0_PLLCAP, 132 XRES
part K pins: 32 TCK (in), 33 TDI (in), 34 TDO (out), 36 TMS (in), 73 CFG1 (in), 74 CFG2 (in), 75 PROGRAMN (in), 76 INITN (io), 77 CFG0 (in), 78 CCLK (io), 79 DONE (io)
part L pins: 6 VCCAUX (power), 9 VCCIO7 (power), 16 VCC (power), 22 VCC (power), 29 VCC (power), 31 VCCIO6 (power), 35 VCCJ (power), 39 VCCAUX (power), 42 VCCIO5 (power), 48 VCC (power), 54 VCC (power), 64 VCCIO4 (power), 83 VCC (power), 85 VCCIO8 (power), 89 VCCIO3 (power), 90 VCCAUX (power), 94 VCC (power), 102 VCC (power), 106 VCCIO2 (power), 117 VCCIO1 (power), 128 VCC (power), 135 VCC (power), 139 VCCIO0 (power), 142 VCCAUX (power)
part M pins: 11 GND (power), 21 GND (power), 30 GND (power), 47 GND (power), 51 GND (power), 61 GND (power), 81 GND (power), 95 GND (power), 105 GND (power), 120 GND (power), 133 GND (power), 138 GND (power)
part N pins: 127 NC
part A text: BANK 0
part B text: BANK 1
part C text: BANK 2
part D text: BANK 3
part E text: BANK 4
part F text: BANK 5
part G text: BANK 6
part H text: BANK 7
part I text: BANK 8

## LFE2-12SE-5T144I
designator U?
ECP2 1.2V FPGA, Security Series, 93 I/Os, 12K LUTs, 144-Pin TQFP, Speed Grade 5, Industrial Grade; DatasheetVersion: ver04.3, Mar-2009; PackageVersion: ver02.8, Jul-2011; PackageReference: TQFP144; PackageDescription: 144-Pin Thin Quad Flat Pack (TQFP144); Code_JEDEC: MS-026-BFB; ComponentLink1Description: Manufacturer URL; ComponentLink1URL: http://www.latticesemi.com/; ComponentLink2Description: Datasheet; ComponentLink2URL: http://www.latticesemi.com/documents/HB1003.pdf
footprint TQFP144_N (Thin QFP, 144-Leads, Body 20x20mm, Pitch 0.5mm, IPC Medium Density)
footprint TQFP144_L (Thin QFP, 144-Leads, Body 20x20mm, Pitch 0.5mm, IPC High Density)
footprint TQFP144_M (Thin QFP, 144-Leads, Body 20x20mm, Pitch 0.5mm, IPC Low Density)
part A pins: 131 PT28B/PCLKC0_0 (io), 134 PT28A/PCLKT0_0 (io), 136 PT16B (io), 137 PT16A (io), 140 PT6B (io), 141 PT6A (io), 143 PT2B/VREF2_0 (io), 144 PT2A/VREF1_0 (io)
part B pins: 109 PT55B/VREF2_1 (io), 110 PT55A/VREF1_1 (io), 111 PT54B (io), 112 PT54A (io), 113 PT52B (io), 114 PT52A (io), 115 PT50B (io), 116 PT50A (io), 118 PT48B (io), 119 PT48A (io), 121 PT44B (io), 122 PT44A (io), 123 PT40B (io), 124 PT40A (io), 125 PT34B (io), 126 PT34A (io), 129 PT30B/PCLKC1_0 (io), 130 PT30A/PCLKT1_0 (io)
part C pins: 103 PR13B/PCLKC2_0/RDQ10 (io), 104 PR13A/PCLKT2_0/RDQ10 (io), 107 PR2B/VREF2_2 (io), 108 PR2A/VREF1_2 (io)
part D pins: 91 PR20B/RLM0_GPLLC_IN_A (io), 92 PR20A/RLM0_GPLLT_IN_A (io), 96 PR17B/RLM0_GDLLC_IN_A (io), 97 PR17A/RLM0_GDLLT_IN_A (io), 98 PR16B/VREF2_3 (io), 99 PR16A/VREF1_3 (io), 100 PR15B/PCLKC3_0 (io), 101 PR15A/PCLKT3_0 (io)
part E pins: 52 PB31A/PCLKT4_0/BDQ33 (io), 53 PB31B/PCLKC4_0/BDQ33 (io), 55 PB34A/BDQ33 (io), 56 PB34B/BDQ33 (io), 57 PB40A/BDQ42 (io), 58 PB40B/BDQ42 (io), 59 PB44A/BDQ42 (io), 60 PB44B/BDQ42 (io), 62 PB48A/BDQ51 (io), 63 PB48B/BDQ51 (io), 65 PB50A/BDQ51 (io), 66 PB50B/BDQ51 (io), 67 PB52A/BDQ51 (io), 68 PB52B/BDQ51 (io), 69 PB54A/BDQ51 (io), 70 PB54B/BDQ51 (io), 71 PB55A/VREF2_4/BDQ51 (io), 72 PB55B/VREF1_4/BDQ51 (io)
part F pins: 37 PB2A/VREF2_5/BDQ6 (io), 38 PB2B/VREF1_5/BDQ6 (io), 40 PB6A/BDQS6 (io), 41 PB6B/BDQ6 (io), 43 PB12A/BDQ15 (io), 44 PB12B/BDQ15 (io), 45 PB16A/BDQ15 (io), 46 PB16B/BDQ15 (io), 49 PB26A/PCLKT5_0/BDQ24 (io), 50 PB26B/PCLKC5_0/BDQ24 (io)
part G pins: 17 PL15A/PCLKT6_0 (io), 18 PL15B/PCLKC6_0 (io), 19 PL16A/VREF2_6 (io), 20 PL16B/VREF1_6 (io), 23 PL18A/LLM0_GDLLT_FB_A (io), 24 PL18B/LLM0_GDLLC_FB_A (io), 26 PL20A/LLM0_GPLLT_IN_A (io), 27 PL20B/LLM0_GPLLC_IN_A (io), 28 PL22A (io)
part H pins: 1 PL2A/VREF2_7 (io), 2 PL2B/VREF1_7 (io), 3 PL4A (io), 4 PL4B (io), 5 PL6A/LDQ10 (io), 7 PL6B/LDQ10 (io), 8 PL8A/LDQ10 (io), 10 PL8B/LDQ10 (io), 12 PL12A/LDQ10 (io), 13 PL12B/LDQ10 (io), 14 PL13A/PCLKT7_0/LDQ10 (io), 15 PL13B/PCLKC7_0/LDQ10 (io)
part I pins: 80 PR29A/D0/SPIFASTN (io), 82 PR26A/D6 (io), 84 PR25B/D7 (io), 86 PR25A/DI/CSSPI0N (io), 87 PR24B/DOUT/CSON (io), 88 PR24A/BUSY/SISPI (io)
part J pins: 25 LLM0_PLLCAP, 93 RLM0_PLLCAP, 132 XRES
part K pins: 32 TCK (in), 33 TDI (in), 34 TDO (out), 36 TMS (in), 73 CFG1 (in), 74 CFG2 (in), 75 PROGRAMN (in), 76 INITN (io), 77 CFG0 (in), 78 CCLK (io), 79 DONE (io)
part L pins: 6 VCCAUX (power), 9 VCCIO7 (power), 16 VCC (power), 22 VCC (power), 29 VCC (power), 31 VCCIO6 (power), 35 VCCJ (power), 39 VCCAUX (power), 42 VCCIO5 (power), 48 VCC (power), 54 VCC (power), 64 VCCIO4 (power), 83 VCC (power), 85 VCCIO8 (power), 89 VCCIO3 (power), 90 VCCAUX (power), 94 VCC (power), 102 VCC (power), 106 VCCIO2 (power), 117 VCCIO1 (power), 128 VCC (power), 135 VCC (power), 139 VCCIO0 (power), 142 VCCAUX (power)
part M pins: 11 GND (power), 21 GND (power), 30 GND (power), 47 GND (power), 51 GND (power), 61 GND (power), 81 GND (power), 95 GND (power), 105 GND (power), 120 GND (power), 133 GND (power), 138 GND (power)
part N pins: 127 NC
part A text: BANK 0
part B text: BANK 1
part C text: BANK 2
part D text: BANK 3
part E text: BANK 4
part F text: BANK 5
part G text: BANK 6
part H text: BANK 7
part I text: BANK 8

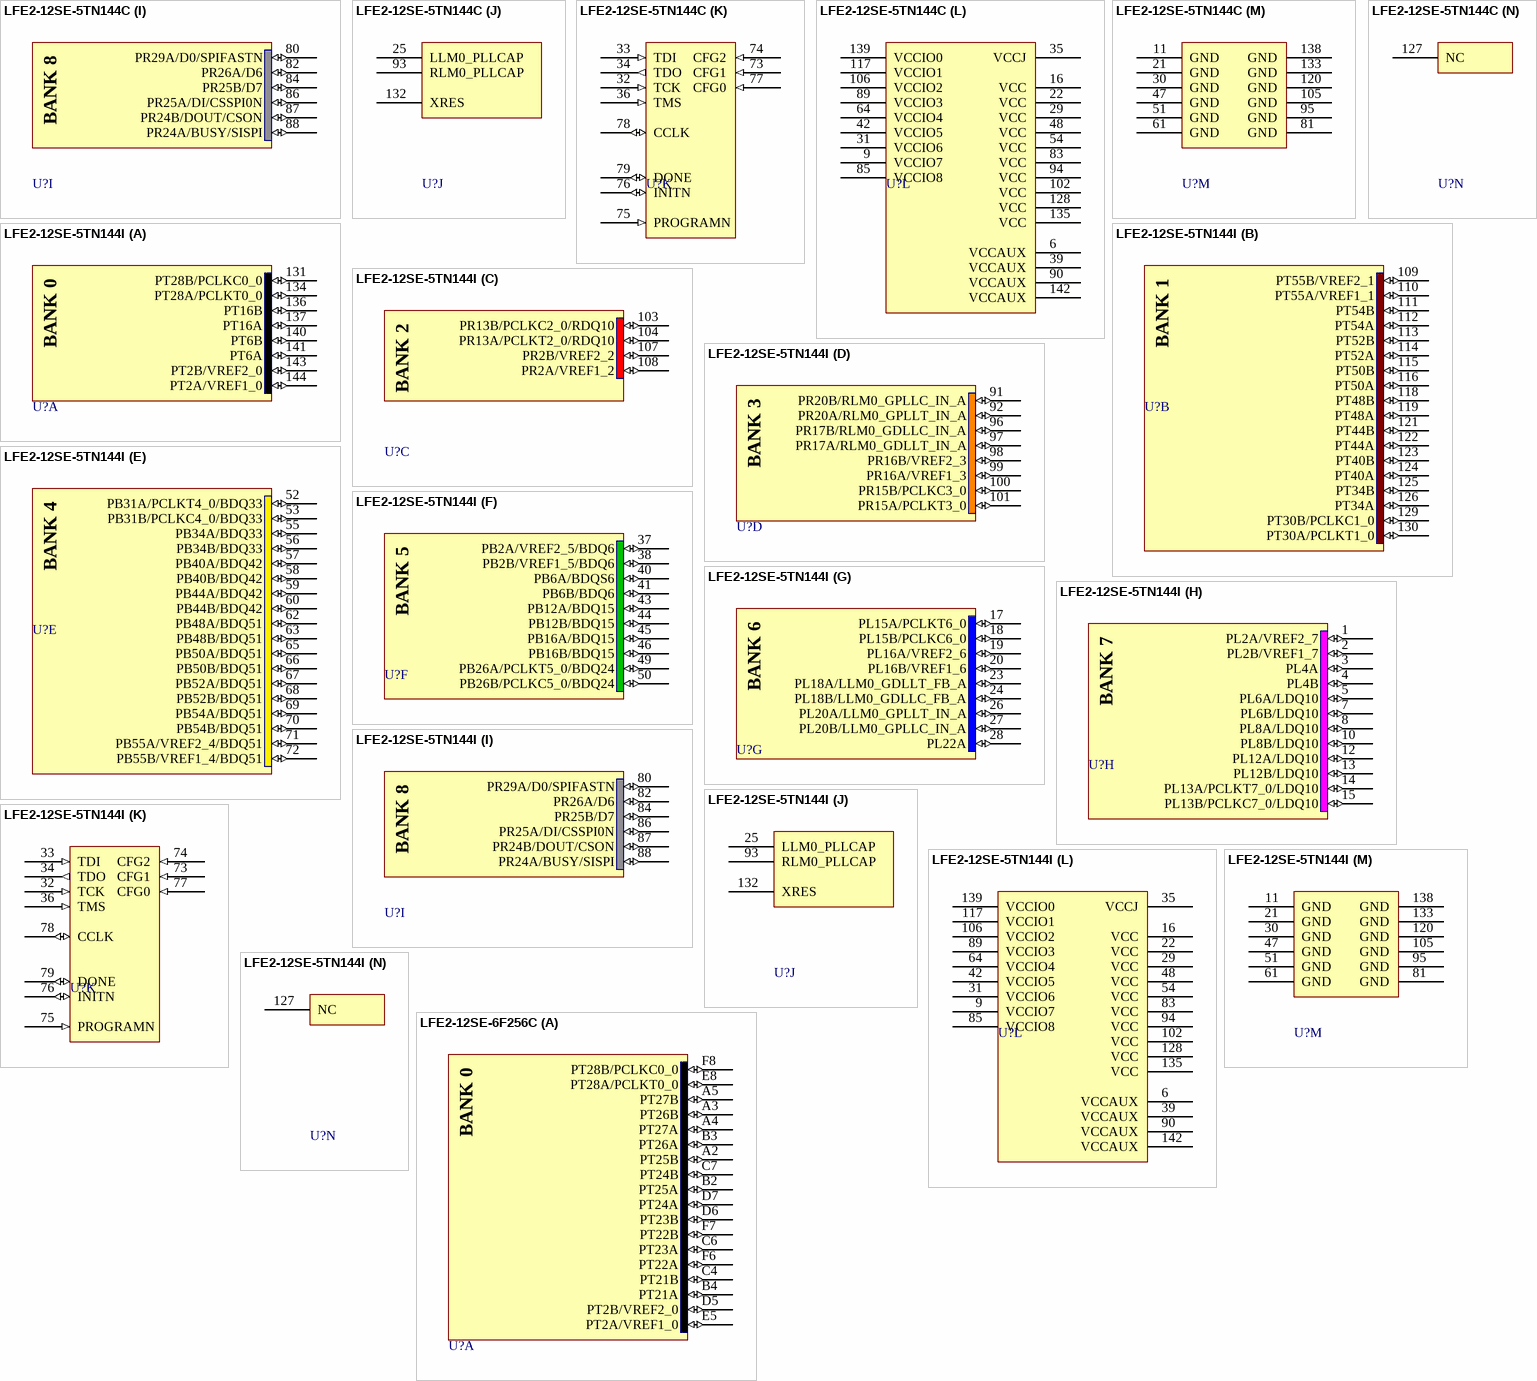
[diagram p102: symbols LFE2-12SE-5TN144C to LFE2-12SE-6F256C]

## LFE2-12SE-5TN144C
designator U?
ECP2 1.2V FPGA, Security Series, 93 I/Os, 12K LUTs, 144-Pin TQFP, Speed Grade 5, Commercial Grade, Pb-Free; DatasheetVersion: ver04.3, Mar-2009; PackageVersion: ver02.8, Jul-2011; PackageReference: TQFP144; PackageDescription: 144-Pin Thin Quad Flat Pack (TQFP144); Code_JEDEC: MS-026-BFB; ComponentLink1Description: Manufacturer URL; ComponentLink1URL: http://www.latticesemi.com/; ComponentLink2Description: Datasheet; ComponentLink2URL: http://www.latticesemi.com/documents/HB1003.pdf
footprint TQFP144_N (Thin QFP, 144-Leads, Body 20x20mm, Pitch 0.5mm, IPC Medium Density)
footprint TQFP144_L (Thin QFP, 144-Leads, Body 20x20mm, Pitch 0.5mm, IPC High Density)
footprint TQFP144_M (Thin QFP, 144-Leads, Body 20x20mm, Pitch 0.5mm, IPC Low Density)
part A pins: 131 PT28B/PCLKC0_0 (io), 134 PT28A/PCLKT0_0 (io), 136 PT16B (io), 137 PT16A (io), 140 PT6B (io), 141 PT6A (io), 143 PT2B/VREF2_0 (io), 144 PT2A/VREF1_0 (io)
part B pins: 109 PT55B/VREF2_1 (io), 110 PT55A/VREF1_1 (io), 111 PT54B (io), 112 PT54A (io), 113 PT52B (io), 114 PT52A (io), 115 PT50B (io), 116 PT50A (io), 118 PT48B (io), 119 PT48A (io), 121 PT44B (io), 122 PT44A (io), 123 PT40B (io), 124 PT40A (io), 125 PT34B (io), 126 PT34A (io), 129 PT30B/PCLKC1_0 (io), 130 PT30A/PCLKT1_0 (io)
part C pins: 103 PR13B/PCLKC2_0/RDQ10 (io), 104 PR13A/PCLKT2_0/RDQ10 (io), 107 PR2B/VREF2_2 (io), 108 PR2A/VREF1_2 (io)
part D pins: 91 PR20B/RLM0_GPLLC_IN_A (io), 92 PR20A/RLM0_GPLLT_IN_A (io), 96 PR17B/RLM0_GDLLC_IN_A (io), 97 PR17A/RLM0_GDLLT_IN_A (io), 98 PR16B/VREF2_3 (io), 99 PR16A/VREF1_3 (io), 100 PR15B/PCLKC3_0 (io), 101 PR15A/PCLKT3_0 (io)
part E pins: 52 PB31A/PCLKT4_0/BDQ33 (io), 53 PB31B/PCLKC4_0/BDQ33 (io), 55 PB34A/BDQ33 (io), 56 PB34B/BDQ33 (io), 57 PB40A/BDQ42 (io), 58 PB40B/BDQ42 (io), 59 PB44A/BDQ42 (io), 60 PB44B/BDQ42 (io), 62 PB48A/BDQ51 (io), 63 PB48B/BDQ51 (io), 65 PB50A/BDQ51 (io), 66 PB50B/BDQ51 (io), 67 PB52A/BDQ51 (io), 68 PB52B/BDQ51 (io), 69 PB54A/BDQ51 (io), 70 PB54B/BDQ51 (io), 71 PB55A/VREF2_4/BDQ51 (io), 72 PB55B/VREF1_4/BDQ51 (io)
part F pins: 37 PB2A/VREF2_5/BDQ6 (io), 38 PB2B/VREF1_5/BDQ6 (io), 40 PB6A/BDQS6 (io), 41 PB6B/BDQ6 (io), 43 PB12A/BDQ15 (io), 44 PB12B/BDQ15 (io), 45 PB16A/BDQ15 (io), 46 PB16B/BDQ15 (io), 49 PB26A/PCLKT5_0/BDQ24 (io), 50 PB26B/PCLKC5_0/BDQ24 (io)
part G pins: 17 PL15A/PCLKT6_0 (io), 18 PL15B/PCLKC6_0 (io), 19 PL16A/VREF2_6 (io), 20 PL16B/VREF1_6 (io), 23 PL18A/LLM0_GDLLT_FB_A (io), 24 PL18B/LLM0_GDLLC_FB_A (io), 26 PL20A/LLM0_GPLLT_IN_A (io), 27 PL20B/LLM0_GPLLC_IN_A (io), 28 PL22A (io)
part H pins: 1 PL2A/VREF2_7 (io), 2 PL2B/VREF1_7 (io), 3 PL4A (io), 4 PL4B (io), 5 PL6A/LDQ10 (io), 7 PL6B/LDQ10 (io), 8 PL8A/LDQ10 (io), 10 PL8B/LDQ10 (io), 12 PL12A/LDQ10 (io), 13 PL12B/LDQ10 (io), 14 PL13A/PCLKT7_0/LDQ10 (io), 15 PL13B/PCLKC7_0/LDQ10 (io)
part I pins: 80 PR29A/D0/SPIFASTN (io), 82 PR26A/D6 (io), 84 PR25B/D7 (io), 86 PR25A/DI/CSSPI0N (io), 87 PR24B/DOUT/CSON (io), 88 PR24A/BUSY/SISPI (io)
part J pins: 25 LLM0_PLLCAP, 93 RLM0_PLLCAP, 132 XRES
part K pins: 32 TCK (in), 33 TDI (in), 34 TDO (out), 36 TMS (in), 73 CFG1 (in), 74 CFG2 (in), 75 PROGRAMN (in), 76 INITN (io), 77 CFG0 (in), 78 CCLK (io), 79 DONE (io)
part L pins: 6 VCCAUX (power), 9 VCCIO7 (power), 16 VCC (power), 22 VCC (power), 29 VCC (power), 31 VCCIO6 (power), 35 VCCJ (power), 39 VCCAUX (power), 42 VCCIO5 (power), 48 VCC (power), 54 VCC (power), 64 VCCIO4 (power), 83 VCC (power), 85 VCCIO8 (power), 89 VCCIO3 (power), 90 VCCAUX (power), 94 VCC (power), 102 VCC (power), 106 VCCIO2 (power), 117 VCCIO1 (power), 128 VCC (power), 135 VCC (power), 139 VCCIO0 (power), 142 VCCAUX (power)
part M pins: 11 GND (power), 21 GND (power), 30 GND (power), 47 GND (power), 51 GND (power), 61 GND (power), 81 GND (power), 95 GND (power), 105 GND (power), 120 GND (power), 133 GND (power), 138 GND (power)
part N pins: 127 NC
part A text: BANK 0
part B text: BANK 1
part C text: BANK 2
part D text: BANK 3
part E text: BANK 4
part F text: BANK 5
part G text: BANK 6
part H text: BANK 7
part I text: BANK 8

## LFE2-12SE-5TN144I
designator U?
ECP2 1.2V FPGA, Security Series, 93 I/Os, 12K LUTs, 144-Pin TQFP, Speed Grade 5, Industrial Grade, Pb-Free; DatasheetVersion: ver04.3, Mar-2009; PackageVersion: ver02.8, Jul-2011; PackageReference: TQFP144; PackageDescription: 144-Pin Thin Quad Flat Pack (TQFP144); Code_JEDEC: MS-026-BFB; ComponentLink1Description: Manufacturer URL; ComponentLink1URL: http://www.latticesemi.com/; ComponentLink2Description: Datasheet; ComponentLink2URL: http://www.latticesemi.com/documents/HB1003.pdf
footprint TQFP144_N (Thin QFP, 144-Leads, Body 20x20mm, Pitch 0.5mm, IPC Medium Density)
footprint TQFP144_L (Thin QFP, 144-Leads, Body 20x20mm, Pitch 0.5mm, IPC High Density)
footprint TQFP144_M (Thin QFP, 144-Leads, Body 20x20mm, Pitch 0.5mm, IPC Low Density)
part A pins: 131 PT28B/PCLKC0_0 (io), 134 PT28A/PCLKT0_0 (io), 136 PT16B (io), 137 PT16A (io), 140 PT6B (io), 141 PT6A (io), 143 PT2B/VREF2_0 (io), 144 PT2A/VREF1_0 (io)
part B pins: 109 PT55B/VREF2_1 (io), 110 PT55A/VREF1_1 (io), 111 PT54B (io), 112 PT54A (io), 113 PT52B (io), 114 PT52A (io), 115 PT50B (io), 116 PT50A (io), 118 PT48B (io), 119 PT48A (io), 121 PT44B (io), 122 PT44A (io), 123 PT40B (io), 124 PT40A (io), 125 PT34B (io), 126 PT34A (io), 129 PT30B/PCLKC1_0 (io), 130 PT30A/PCLKT1_0 (io)
part C pins: 103 PR13B/PCLKC2_0/RDQ10 (io), 104 PR13A/PCLKT2_0/RDQ10 (io), 107 PR2B/VREF2_2 (io), 108 PR2A/VREF1_2 (io)
part D pins: 91 PR20B/RLM0_GPLLC_IN_A (io), 92 PR20A/RLM0_GPLLT_IN_A (io), 96 PR17B/RLM0_GDLLC_IN_A (io), 97 PR17A/RLM0_GDLLT_IN_A (io), 98 PR16B/VREF2_3 (io), 99 PR16A/VREF1_3 (io), 100 PR15B/PCLKC3_0 (io), 101 PR15A/PCLKT3_0 (io)
part E pins: 52 PB31A/PCLKT4_0/BDQ33 (io), 53 PB31B/PCLKC4_0/BDQ33 (io), 55 PB34A/BDQ33 (io), 56 PB34B/BDQ33 (io), 57 PB40A/BDQ42 (io), 58 PB40B/BDQ42 (io), 59 PB44A/BDQ42 (io), 60 PB44B/BDQ42 (io), 62 PB48A/BDQ51 (io), 63 PB48B/BDQ51 (io), 65 PB50A/BDQ51 (io), 66 PB50B/BDQ51 (io), 67 PB52A/BDQ51 (io), 68 PB52B/BDQ51 (io), 69 PB54A/BDQ51 (io), 70 PB54B/BDQ51 (io), 71 PB55A/VREF2_4/BDQ51 (io), 72 PB55B/VREF1_4/BDQ51 (io)
part F pins: 37 PB2A/VREF2_5/BDQ6 (io), 38 PB2B/VREF1_5/BDQ6 (io), 40 PB6A/BDQS6 (io), 41 PB6B/BDQ6 (io), 43 PB12A/BDQ15 (io), 44 PB12B/BDQ15 (io), 45 PB16A/BDQ15 (io), 46 PB16B/BDQ15 (io), 49 PB26A/PCLKT5_0/BDQ24 (io), 50 PB26B/PCLKC5_0/BDQ24 (io)
part G pins: 17 PL15A/PCLKT6_0 (io), 18 PL15B/PCLKC6_0 (io), 19 PL16A/VREF2_6 (io), 20 PL16B/VREF1_6 (io), 23 PL18A/LLM0_GDLLT_FB_A (io), 24 PL18B/LLM0_GDLLC_FB_A (io), 26 PL20A/LLM0_GPLLT_IN_A (io), 27 PL20B/LLM0_GPLLC_IN_A (io), 28 PL22A (io)
part H pins: 1 PL2A/VREF2_7 (io), 2 PL2B/VREF1_7 (io), 3 PL4A (io), 4 PL4B (io), 5 PL6A/LDQ10 (io), 7 PL6B/LDQ10 (io), 8 PL8A/LDQ10 (io), 10 PL8B/LDQ10 (io), 12 PL12A/LDQ10 (io), 13 PL12B/LDQ10 (io), 14 PL13A/PCLKT7_0/LDQ10 (io), 15 PL13B/PCLKC7_0/LDQ10 (io)
part I pins: 80 PR29A/D0/SPIFASTN (io), 82 PR26A/D6 (io), 84 PR25B/D7 (io), 86 PR25A/DI/CSSPI0N (io), 87 PR24B/DOUT/CSON (io), 88 PR24A/BUSY/SISPI (io)
part J pins: 25 LLM0_PLLCAP, 93 RLM0_PLLCAP, 132 XRES
part K pins: 32 TCK (in), 33 TDI (in), 34 TDO (out), 36 TMS (in), 73 CFG1 (in), 74 CFG2 (in), 75 PROGRAMN (in), 76 INITN (io), 77 CFG0 (in), 78 CCLK (io), 79 DONE (io)
part L pins: 6 VCCAUX (power), 9 VCCIO7 (power), 16 VCC (power), 22 VCC (power), 29 VCC (power), 31 VCCIO6 (power), 35 VCCJ (power), 39 VCCAUX (power), 42 VCCIO5 (power), 48 VCC (power), 54 VCC (power), 64 VCCIO4 (power), 83 VCC (power), 85 VCCIO8 (power), 89 VCCIO3 (power), 90 VCCAUX (power), 94 VCC (power), 102 VCC (power), 106 VCCIO2 (power), 117 VCCIO1 (power), 128 VCC (power), 135 VCC (power), 139 VCCIO0 (power), 142 VCCAUX (power)
part M pins: 11 GND (power), 21 GND (power), 30 GND (power), 47 GND (power), 51 GND (power), 61 GND (power), 81 GND (power), 95 GND (power), 105 GND (power), 120 GND (power), 133 GND (power), 138 GND (power)
part N pins: 127 NC
part A text: BANK 0
part B text: BANK 1
part C text: BANK 2
part D text: BANK 3
part E text: BANK 4
part F text: BANK 5
part G text: BANK 6
part H text: BANK 7
part I text: BANK 8

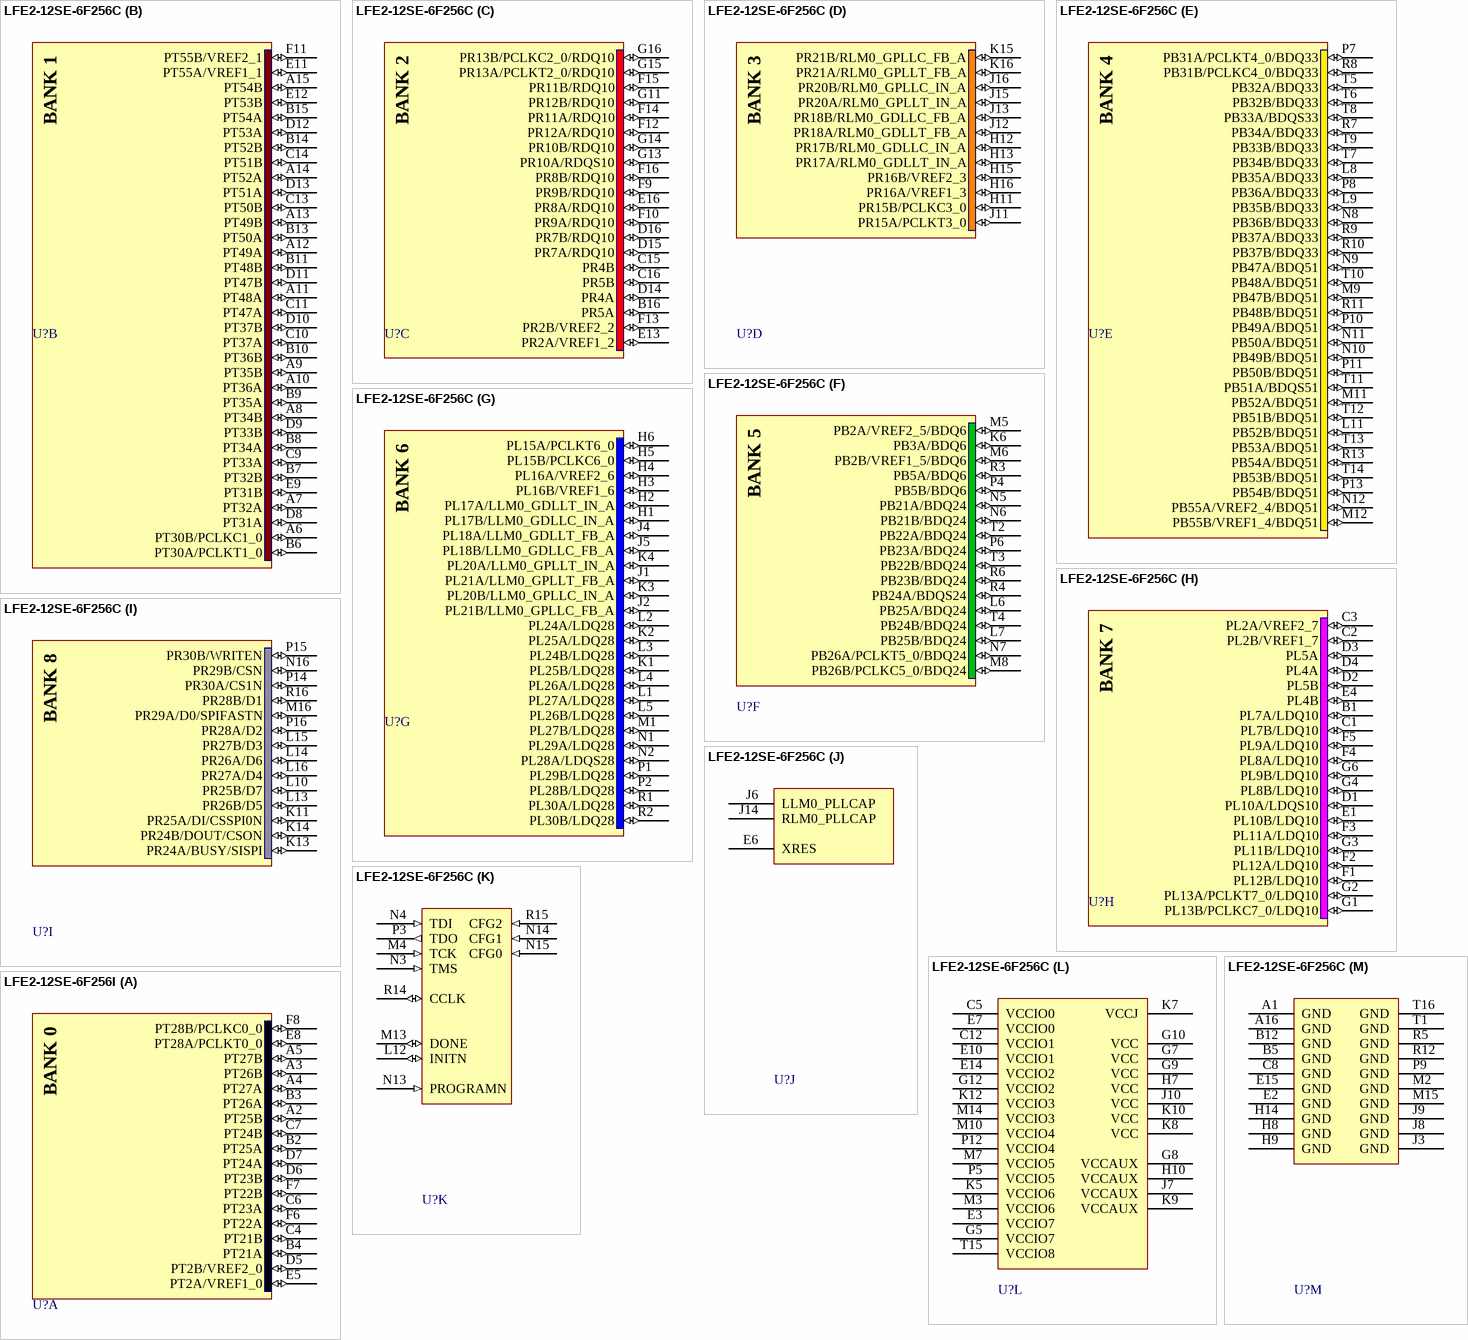
[diagram p103: symbols LFE2-12SE-6F256C to LFE2-12SE-6F256I]

## LFE2-12SE-6F256C
designator U?
ECP2 1.2V FPGA, Security Series, 193 I/Os, 12K LUTs, 256-Ball fpBGA, Speed Grade 6, Commercial Grade; DatasheetVersion: ver04.3, Mar-2009; PackageVersion: ver01.8, Dec-2008; PackageReference: fpBGA256; PackageDescription: 256-Ball Fine Pitch Ball Grid Array (fpBGA256); Code_IPC: BGA100P16X16-256; ComponentLink1Description: Manufacturer URL; ComponentLink1URL: http://www.latticesemi.com/; ComponentLink2Description: Datasheet; ComponentLink2URL: http://www.latticesemi.com/documents/HB1003.pdf
footprint fpBGA256 (BGA, 256-Leads, Body 17x17mm, Pitch 1mm)
part A pins: A2 PT25B (io), A3 PT26B (io), A4 PT27A (io), A5 PT27B (io), B2 PT25A (io), B3 PT26A (io), B4 PT21A (io), C4 PT21B (io), C6 PT23A (io), C7 PT24B (io), D5 PT2B/VREF2_0 (io), D6 PT23B (io), D7 PT24A (io), E5 PT2A/VREF1_0 (io), E8 PT28A/PCLKT0_0 (io), F6 PT22A (io), F7 PT22B (io), F8 PT28B/PCLKC0_0 (io)
part B pins: A6 PT30B/PCLKC1_0 (io), A7 PT32A (io), A8 PT34B (io), A9 PT35B (io), A10 PT36A (io), A11 PT48A (io), A12 PT49A (io), A13 PT49B (io), A14 PT52A (io), A15 PT54B (io), B6 PT30A/PCLKT1_0 (io), B7 PT32B (io), B8 PT34A (io), B9 PT35A (io), B10 PT36B (io), B11 PT48B (io), B13 PT50A (io), B14 PT52B (io), B15 PT54A (io), C9 PT33A (io), C10 PT37A (io), C11 PT47A (io), C13 PT50B (io), C14 PT51B (io), D8 PT31A (io), D9 PT33B (io), D10 PT37B (io), D11 PT47B (io), D12 PT53A (io), D13 PT51A (io), E9 PT31B (io), E11 PT55A/VREF1_1 (io), E12 PT53B (io), F11 PT55B/VREF2_1 (io)
part C pins: B16 PR5A (io), C15 PR4B (io), C16 PR5B (io), D14 PR4A (io), D15 PR7A/RDQ10 (io), D16 PR7B/RDQ10 (io), E13 PR2A/VREF1_2 (io), E16 PR8A/RDQ10 (io), F9 PR9B/RDQ10 (io), F10 PR9A/RDQ10 (io), F12 PR12A/RDQ10 (io), F13 PR2B/VREF2_2 (io), F14 PR11A/RDQ10 (io), F15 PR11B/RDQ10 (io), F16 PR8B/RDQ10 (io), G11 PR12B/RDQ10 (io), G13 PR10A/RDQS10 (io), G14 PR10B/RDQ10 (io), G15 PR13A/PCLKT2_0/RDQ10 (io), G16 PR13B/PCLKC2_0/RDQ10 (io)
part D pins: H11 PR15B/PCLKC3_0 (io), H12 PR17B/RLM0_GDLLC_IN_A (io), H13 PR17A/RLM0_GDLLT_IN_A (io), H15 PR16B/VREF2_3 (io), H16 PR16A/VREF1_3 (io), J11 PR15A/PCLKT3_0 (io), J12 PR18A/RLM0_GDLLT_FB_A (io), J13 PR18B/RLM0_GDLLC_FB_A (io), J15 PR20A/RLM0_GPLLT_IN_A (io), J16 PR20B/RLM0_GPLLC_IN_A (io), K15 PR21B/RLM0_GPLLC_FB_A (io), K16 PR21A/RLM0_GPLLT_FB_A (io)
part E pins: L8 PB35A/BDQ33 (io), L9 PB35B/BDQ33 (io), L11 PB52B/BDQ51 (io), M9 PB47B/BDQ51 (io), M11 PB52A/BDQ51 (io), M12 PB55B/VREF1_4/BDQ51 (io), N8 PB36B/BDQ33 (io), N9 PB47A/BDQ51 (io), N10 PB49B/BDQ51 (io), N11 PB50A/BDQ51 (io), N12 PB55A/VREF2_4/BDQ51 (io), P7 PB31A/PCLKT4_0/BDQ33 (io), P8 PB36A/BDQ33 (io), P10 PB49A/BDQ51 (io), P11 PB50B/BDQ51 (io), P13 PB54B/BDQ51 (io), R7 PB34A/BDQ33 (io), R8 PB31B/PCLKC4_0/BDQ33 (io), R9 PB37A/BDQ33 (io), R10 PB37B/BDQ33 (io), R11 PB48B/BDQ51 (io), R13 PB54A/BDQ51 (io), T5 PB32A/BDQ33 (io), T6 PB32B/BDQ33 (io), T7 PB34B/BDQ33 (io), T8 PB33A/BDQS33 (io), T9 PB33B/BDQ33 (io), T10 PB48A/BDQ51 (io), T11 PB51A/BDQS51 (io), T12 PB51B/BDQ51 (io), T13 PB53A/BDQ51 (io), T14 PB53B/BDQ51 (io)
part F pins: K6 PB3A/BDQ6 (io), L6 PB25A/BDQ24 (io), L7 PB25B/BDQ24 (io), M5 PB2A/VREF2_5/BDQ6 (io), M6 PB2B/VREF1_5/BDQ6 (io), M8 PB26B/PCLKC5_0/BDQ24 (io), N5 PB21A/BDQ24 (io), N6 PB21B/BDQ24 (io), N7 PB26A/PCLKT5_0/BDQ24 (io), P4 PB5B/BDQ6 (io), P6 PB23A/BDQ24 (io), R3 PB5A/BDQ6 (io), R4 PB24A/BDQS24 (io), R6 PB23B/BDQ24 (io), T2 PB22A/BDQ24 (io), T3 PB22B/BDQ24 (io), T4 PB24B/BDQ24 (io)
part G pins: H1 PL17B/LLM0_GDLLC_IN_A (io), H2 PL17A/LLM0_GDLLT_IN_A (io), H3 PL16B/VREF1_6 (io), H4 PL16A/VREF2_6 (io), H5 PL15B/PCLKC6_0 (io), H6 PL15A/PCLKT6_0 (io), J1 PL21A/LLM0_GPLLT_FB_A (io), J2 PL21B/LLM0_GPLLC_FB_A (io), J4 PL18A/LLM0_GDLLT_FB_A (io), J5 PL18B/LLM0_GDLLC_FB_A (io), K1 PL25B/LDQ28 (io), K2 PL25A/LDQ28 (io), K3 PL20B/LLM0_GPLLC_IN_A (io), K4 PL20A/LLM0_GPLLT_IN_A (io), L1 PL27A/LDQ28 (io), L2 PL24A/LDQ28 (io), L3 PL24B/LDQ28 (io), L4 PL26A/LDQ28 (io), L5 PL26B/LDQ28 (io), M1 PL27B/LDQ28 (io), N1 PL29A/LDQ28 (io), N2 PL28A/LDQS28 (io), P1 PL29B/LDQ28 (io), P2 PL28B/LDQ28 (io), R1 PL30A/LDQ28 (io), R2 PL30B/LDQ28 (io)
part H pins: B1 PL7A/LDQ10 (io), C1 PL7B/LDQ10 (io), C2 PL2B/VREF1_7 (io), C3 PL2A/VREF2_7 (io), D1 PL10A/LDQS10 (io), D2 PL5B (io), D3 PL5A (io), D4 PL4A (io), E1 PL10B/LDQ10 (io), E4 PL4B (io), F1 PL12B/LDQ10 (io), F2 PL12A/LDQ10 (io), F3 PL11A/LDQ10 (io), F4 PL8A/LDQ10 (io), F5 PL9A/LDQ10 (io), G1 PL13B/PCLKC7_0/LDQ10 (io), G2 PL13A/PCLKT7_0/LDQ10 (io), G3 PL11B/LDQ10 (io), G4 PL8B/LDQ10 (io), G6 PL9B/LDQ10 (io)
part I pins: K11 PR25A/DI/CSSPI0N (io), K13 PR24A/BUSY/SISPI (io), K14 PR24B/DOUT/CSON (io), L10 PR25B/D7 (io), L13 PR26B/D5 (io), L14 PR26A/D6 (io), L15 PR27B/D3 (io), L16 PR27A/D4 (io), M16 PR29A/D0/SPIFASTN (io), N16 PR29B/CSN (io), P14 PR30A/CS1N (io), P15 PR30B/WRITEN (io), P16 PR28A/D2 (io), R16 PR28B/D1 (io)
part J pins: E6 XRES, J6 LLM0_PLLCAP, J14 RLM0_PLLCAP
part K pins: L12 INITN (io), M4 TCK (in), M13 DONE (io), N3 TMS (in), N4 TDI (in), N13 PROGRAMN (in), N14 CFG1 (in), N15 CFG0 (in), P3 TDO (out), R14 CCLK (io), R15 CFG2 (in)
part L pins: C5 VCCIO0 (power), C12 VCCIO1 (power), E3 VCCIO7 (power), E7 VCCIO0 (power), E10 VCCIO1 (power), E14 VCCIO2 (power), G5 VCCIO7 (power), G7 VCC (power), G8 VCCAUX (power), G9 VCC (power), G10 VCC (power), G12 VCCIO2 (power), H7 VCC (power), H10 VCCAUX (power), J7 VCCAUX (power), J10 VCC (power), K5 VCCIO6 (power), K7 VCCJ (power), K8 VCC (power), K9 VCCAUX (power), K10 VCC (power), K12 VCCIO3 (power), M3 VCCIO6 (power), M7 VCCIO5 (power), M10 VCCIO4 (power), M14 VCCIO3 (power), P5 VCCIO5 (power), P12 VCCIO4 (power), T15 VCCIO8 (power)
part M pins: A1 GND (power), A16 GND (power), B5 GND (power), B12 GND (power), C8 GND (power), E2 GND (power), E15 GND (power), H8 GND (power), H9 GND (power), H14 GND (power), J3 GND (power), J8 GND (power), J9 GND (power), M2 GND (power), M15 GND (power), P9 GND (power), R5 GND (power), R12 GND (power), T1 GND (power), T16 GND (power)
part A text: BANK 0
part B text: BANK 1
part C text: BANK 2
part D text: BANK 3
part E text: BANK 4
part F text: BANK 5
part G text: BANK 6
part H text: BANK 7
part I text: BANK 8

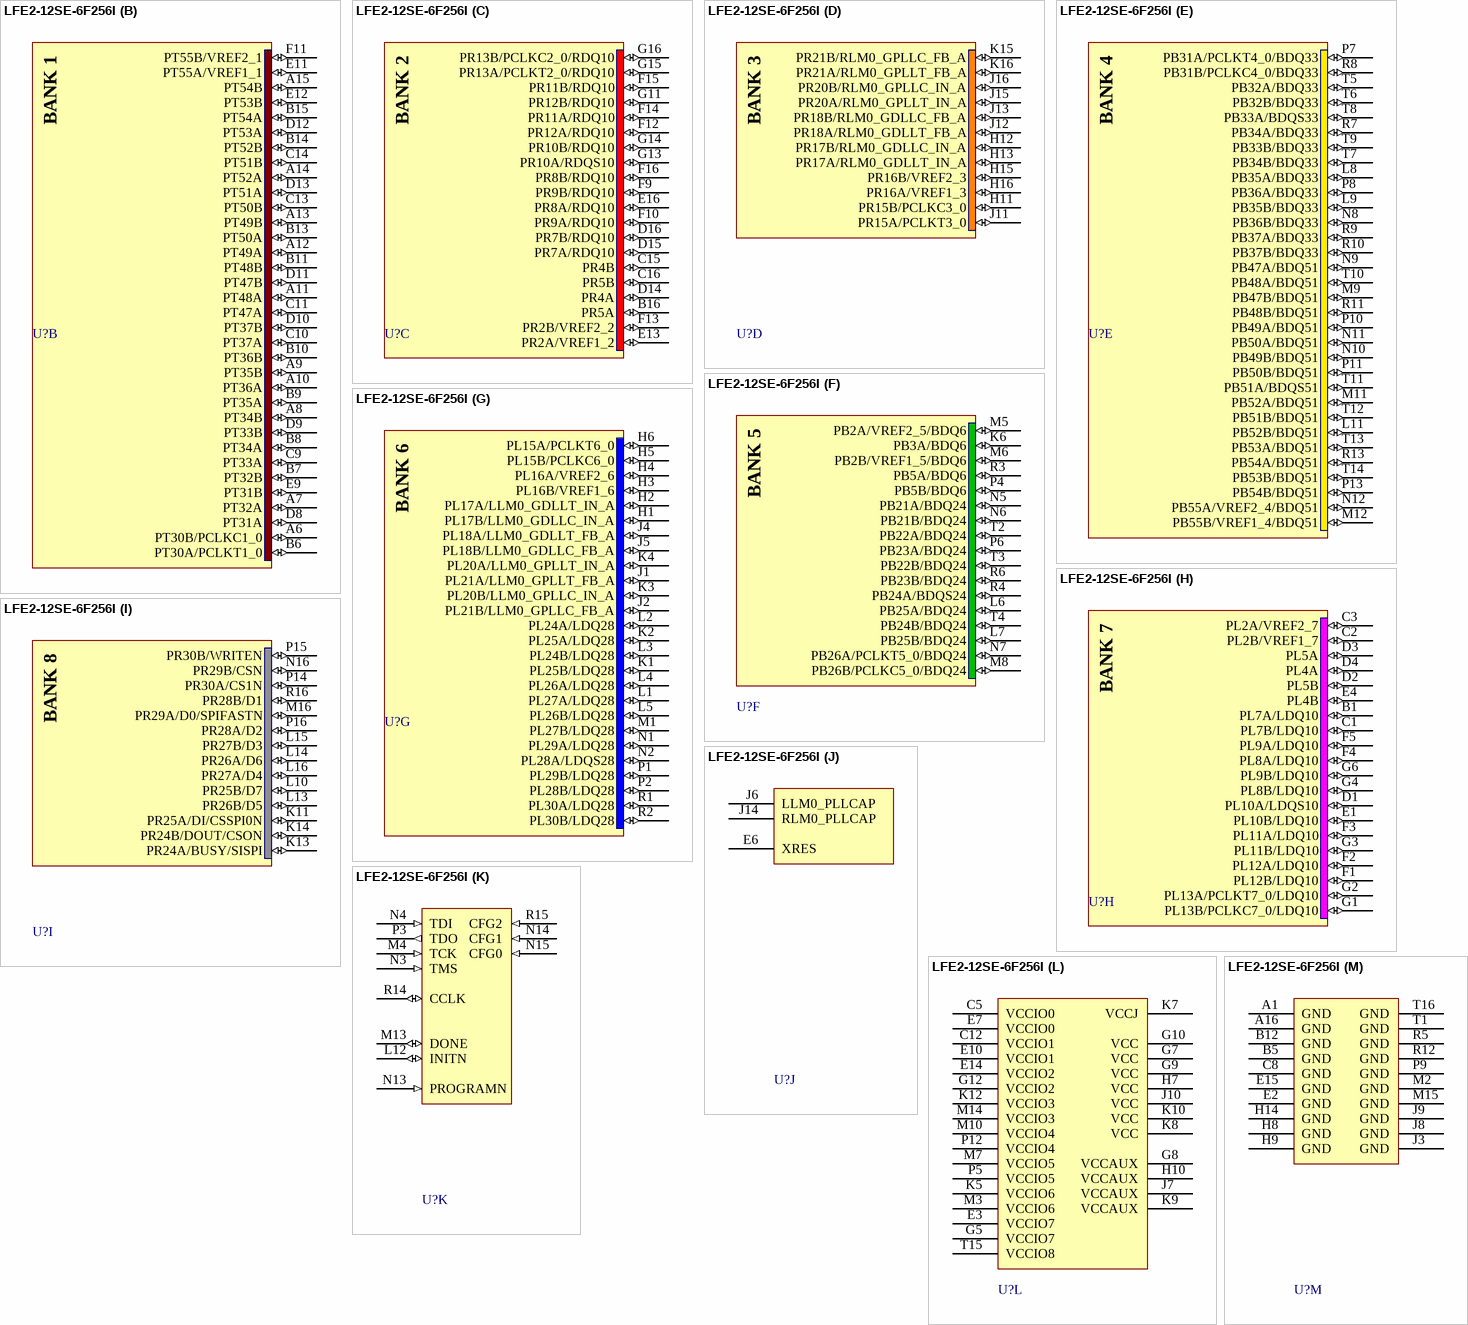
[diagram p104: symbol LFE2-12SE-6F256I]

## LFE2-12SE-6F256I
designator U?
ECP2 1.2V FPGA, Security Series, 193 I/Os, 12K LUTs, 256-Ball fpBGA, Speed Grade 6, Industrial Grade; DatasheetVersion: ver04.3, Mar-2009; PackageVersion: ver01.8, Dec-2008; PackageReference: fpBGA256; PackageDescription: 256-Ball Fine Pitch Ball Grid Array (fpBGA256); Code_IPC: BGA100P16X16-256; ComponentLink1Description: Manufacturer URL; ComponentLink1URL: http://www.latticesemi.com/; ComponentLink2Description: Datasheet; ComponentLink2URL: http://www.latticesemi.com/documents/HB1003.pdf
footprint fpBGA256 (BGA, 256-Leads, Body 17x17mm, Pitch 1mm)
part A pins: A2 PT25B (io), A3 PT26B (io), A4 PT27A (io), A5 PT27B (io), B2 PT25A (io), B3 PT26A (io), B4 PT21A (io), C4 PT21B (io), C6 PT23A (io), C7 PT24B (io), D5 PT2B/VREF2_0 (io), D6 PT23B (io), D7 PT24A (io), E5 PT2A/VREF1_0 (io), E8 PT28A/PCLKT0_0 (io), F6 PT22A (io), F7 PT22B (io), F8 PT28B/PCLKC0_0 (io)
part B pins: A6 PT30B/PCLKC1_0 (io), A7 PT32A (io), A8 PT34B (io), A9 PT35B (io), A10 PT36A (io), A11 PT48A (io), A12 PT49A (io), A13 PT49B (io), A14 PT52A (io), A15 PT54B (io), B6 PT30A/PCLKT1_0 (io), B7 PT32B (io), B8 PT34A (io), B9 PT35A (io), B10 PT36B (io), B11 PT48B (io), B13 PT50A (io), B14 PT52B (io), B15 PT54A (io), C9 PT33A (io), C10 PT37A (io), C11 PT47A (io), C13 PT50B (io), C14 PT51B (io), D8 PT31A (io), D9 PT33B (io), D10 PT37B (io), D11 PT47B (io), D12 PT53A (io), D13 PT51A (io), E9 PT31B (io), E11 PT55A/VREF1_1 (io), E12 PT53B (io), F11 PT55B/VREF2_1 (io)
part C pins: B16 PR5A (io), C15 PR4B (io), C16 PR5B (io), D14 PR4A (io), D15 PR7A/RDQ10 (io), D16 PR7B/RDQ10 (io), E13 PR2A/VREF1_2 (io), E16 PR8A/RDQ10 (io), F9 PR9B/RDQ10 (io), F10 PR9A/RDQ10 (io), F12 PR12A/RDQ10 (io), F13 PR2B/VREF2_2 (io), F14 PR11A/RDQ10 (io), F15 PR11B/RDQ10 (io), F16 PR8B/RDQ10 (io), G11 PR12B/RDQ10 (io), G13 PR10A/RDQS10 (io), G14 PR10B/RDQ10 (io), G15 PR13A/PCLKT2_0/RDQ10 (io), G16 PR13B/PCLKC2_0/RDQ10 (io)
part D pins: H11 PR15B/PCLKC3_0 (io), H12 PR17B/RLM0_GDLLC_IN_A (io), H13 PR17A/RLM0_GDLLT_IN_A (io), H15 PR16B/VREF2_3 (io), H16 PR16A/VREF1_3 (io), J11 PR15A/PCLKT3_0 (io), J12 PR18A/RLM0_GDLLT_FB_A (io), J13 PR18B/RLM0_GDLLC_FB_A (io), J15 PR20A/RLM0_GPLLT_IN_A (io), J16 PR20B/RLM0_GPLLC_IN_A (io), K15 PR21B/RLM0_GPLLC_FB_A (io), K16 PR21A/RLM0_GPLLT_FB_A (io)
part E pins: L8 PB35A/BDQ33 (io), L9 PB35B/BDQ33 (io), L11 PB52B/BDQ51 (io), M9 PB47B/BDQ51 (io), M11 PB52A/BDQ51 (io), M12 PB55B/VREF1_4/BDQ51 (io), N8 PB36B/BDQ33 (io), N9 PB47A/BDQ51 (io), N10 PB49B/BDQ51 (io), N11 PB50A/BDQ51 (io), N12 PB55A/VREF2_4/BDQ51 (io), P7 PB31A/PCLKT4_0/BDQ33 (io), P8 PB36A/BDQ33 (io), P10 PB49A/BDQ51 (io), P11 PB50B/BDQ51 (io), P13 PB54B/BDQ51 (io), R7 PB34A/BDQ33 (io), R8 PB31B/PCLKC4_0/BDQ33 (io), R9 PB37A/BDQ33 (io), R10 PB37B/BDQ33 (io), R11 PB48B/BDQ51 (io), R13 PB54A/BDQ51 (io), T5 PB32A/BDQ33 (io), T6 PB32B/BDQ33 (io), T7 PB34B/BDQ33 (io), T8 PB33A/BDQS33 (io), T9 PB33B/BDQ33 (io), T10 PB48A/BDQ51 (io), T11 PB51A/BDQS51 (io), T12 PB51B/BDQ51 (io), T13 PB53A/BDQ51 (io), T14 PB53B/BDQ51 (io)
part F pins: K6 PB3A/BDQ6 (io), L6 PB25A/BDQ24 (io), L7 PB25B/BDQ24 (io), M5 PB2A/VREF2_5/BDQ6 (io), M6 PB2B/VREF1_5/BDQ6 (io), M8 PB26B/PCLKC5_0/BDQ24 (io), N5 PB21A/BDQ24 (io), N6 PB21B/BDQ24 (io), N7 PB26A/PCLKT5_0/BDQ24 (io), P4 PB5B/BDQ6 (io), P6 PB23A/BDQ24 (io), R3 PB5A/BDQ6 (io), R4 PB24A/BDQS24 (io), R6 PB23B/BDQ24 (io), T2 PB22A/BDQ24 (io), T3 PB22B/BDQ24 (io), T4 PB24B/BDQ24 (io)
part G pins: H1 PL17B/LLM0_GDLLC_IN_A (io), H2 PL17A/LLM0_GDLLT_IN_A (io), H3 PL16B/VREF1_6 (io), H4 PL16A/VREF2_6 (io), H5 PL15B/PCLKC6_0 (io), H6 PL15A/PCLKT6_0 (io), J1 PL21A/LLM0_GPLLT_FB_A (io), J2 PL21B/LLM0_GPLLC_FB_A (io), J4 PL18A/LLM0_GDLLT_FB_A (io), J5 PL18B/LLM0_GDLLC_FB_A (io), K1 PL25B/LDQ28 (io), K2 PL25A/LDQ28 (io), K3 PL20B/LLM0_GPLLC_IN_A (io), K4 PL20A/LLM0_GPLLT_IN_A (io), L1 PL27A/LDQ28 (io), L2 PL24A/LDQ28 (io), L3 PL24B/LDQ28 (io), L4 PL26A/LDQ28 (io), L5 PL26B/LDQ28 (io), M1 PL27B/LDQ28 (io), N1 PL29A/LDQ28 (io), N2 PL28A/LDQS28 (io), P1 PL29B/LDQ28 (io), P2 PL28B/LDQ28 (io), R1 PL30A/LDQ28 (io), R2 PL30B/LDQ28 (io)
part H pins: B1 PL7A/LDQ10 (io), C1 PL7B/LDQ10 (io), C2 PL2B/VREF1_7 (io), C3 PL2A/VREF2_7 (io), D1 PL10A/LDQS10 (io), D2 PL5B (io), D3 PL5A (io), D4 PL4A (io), E1 PL10B/LDQ10 (io), E4 PL4B (io), F1 PL12B/LDQ10 (io), F2 PL12A/LDQ10 (io), F3 PL11A/LDQ10 (io), F4 PL8A/LDQ10 (io), F5 PL9A/LDQ10 (io), G1 PL13B/PCLKC7_0/LDQ10 (io), G2 PL13A/PCLKT7_0/LDQ10 (io), G3 PL11B/LDQ10 (io), G4 PL8B/LDQ10 (io), G6 PL9B/LDQ10 (io)
part I pins: K11 PR25A/DI/CSSPI0N (io), K13 PR24A/BUSY/SISPI (io), K14 PR24B/DOUT/CSON (io), L10 PR25B/D7 (io), L13 PR26B/D5 (io), L14 PR26A/D6 (io), L15 PR27B/D3 (io), L16 PR27A/D4 (io), M16 PR29A/D0/SPIFASTN (io), N16 PR29B/CSN (io), P14 PR30A/CS1N (io), P15 PR30B/WRITEN (io), P16 PR28A/D2 (io), R16 PR28B/D1 (io)
part J pins: E6 XRES, J6 LLM0_PLLCAP, J14 RLM0_PLLCAP
part K pins: L12 INITN (io), M4 TCK (in), M13 DONE (io), N3 TMS (in), N4 TDI (in), N13 PROGRAMN (in), N14 CFG1 (in), N15 CFG0 (in), P3 TDO (out), R14 CCLK (io), R15 CFG2 (in)
part L pins: C5 VCCIO0 (power), C12 VCCIO1 (power), E3 VCCIO7 (power), E7 VCCIO0 (power), E10 VCCIO1 (power), E14 VCCIO2 (power), G5 VCCIO7 (power), G7 VCC (power), G8 VCCAUX (power), G9 VCC (power), G10 VCC (power), G12 VCCIO2 (power), H7 VCC (power), H10 VCCAUX (power), J7 VCCAUX (power), J10 VCC (power), K5 VCCIO6 (power), K7 VCCJ (power), K8 VCC (power), K9 VCCAUX (power), K10 VCC (power), K12 VCCIO3 (power), M3 VCCIO6 (power), M7 VCCIO5 (power), M10 VCCIO4 (power), M14 VCCIO3 (power), P5 VCCIO5 (power), P12 VCCIO4 (power), T15 VCCIO8 (power)
part M pins: A1 GND (power), A16 GND (power), B5 GND (power), B12 GND (power), C8 GND (power), E2 GND (power), E15 GND (power), H8 GND (power), H9 GND (power), H14 GND (power), J3 GND (power), J8 GND (power), J9 GND (power), M2 GND (power), M15 GND (power), P9 GND (power), R5 GND (power), R12 GND (power), T1 GND (power), T16 GND (power)
part A text: BANK 0
part B text: BANK 1
part C text: BANK 2
part D text: BANK 3
part E text: BANK 4
part F text: BANK 5
part G text: BANK 6
part H text: BANK 7
part I text: BANK 8

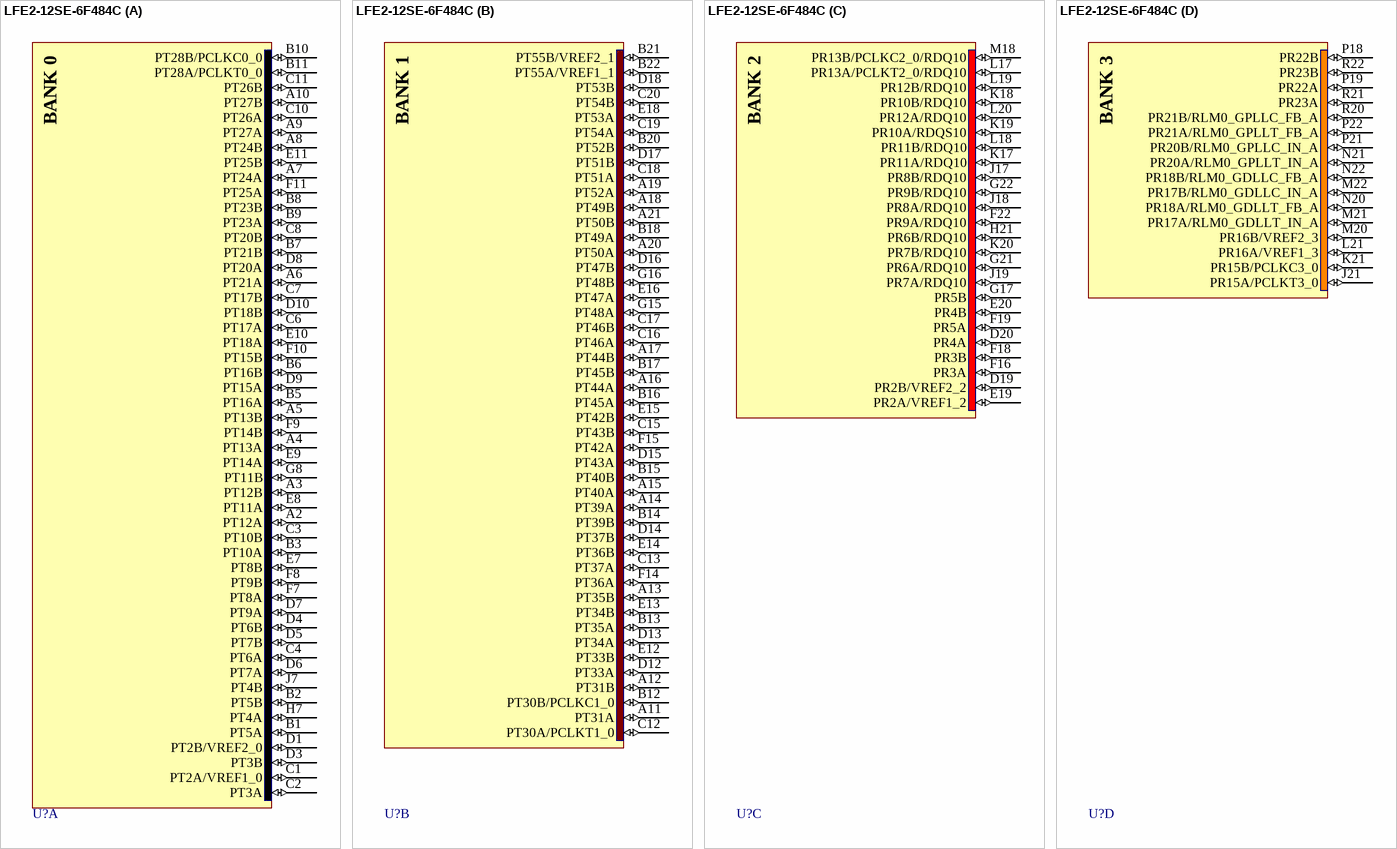
[diagram p105: symbol LFE2-12SE-6F484C]

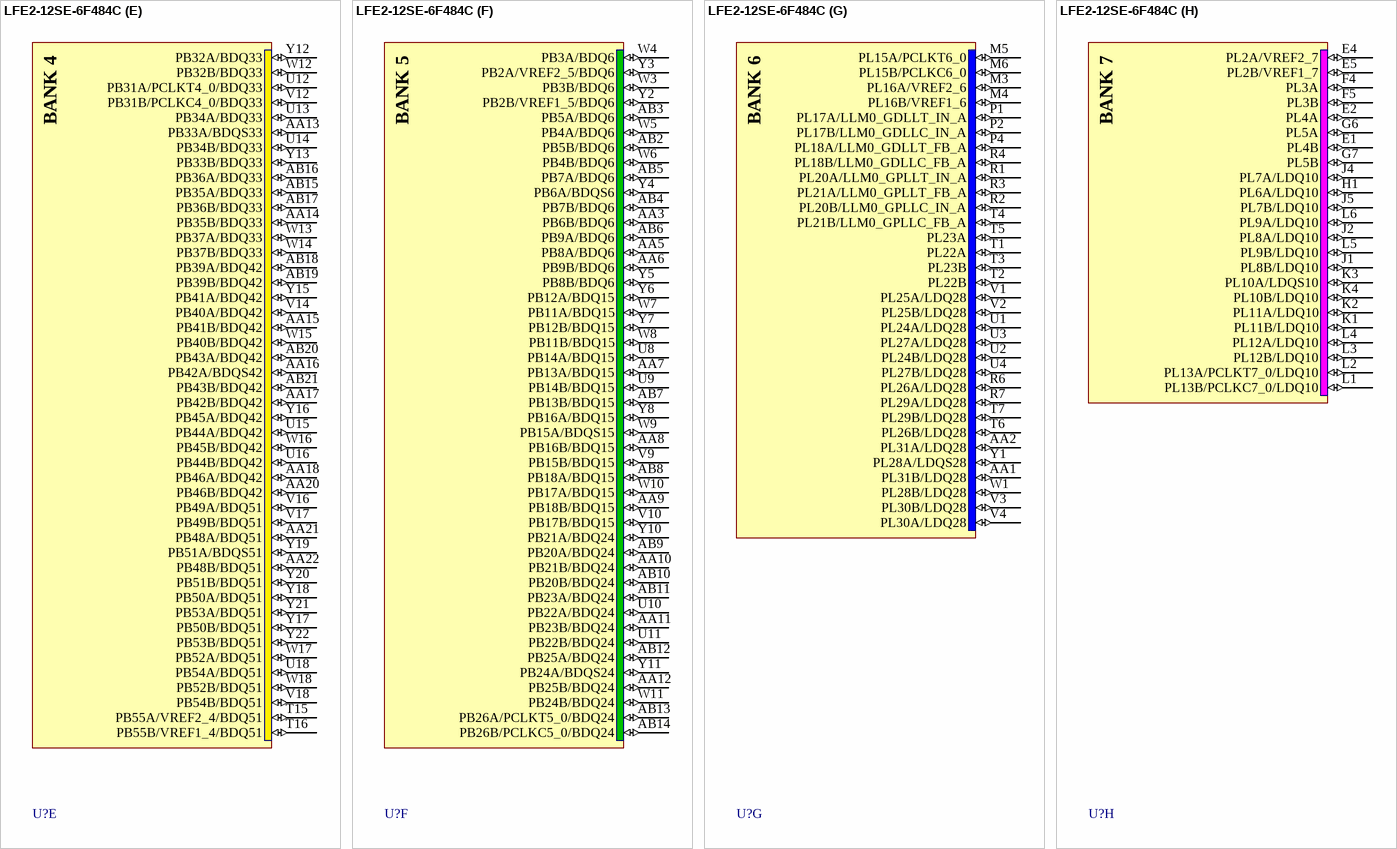
[diagram p106: symbol LFE2-12SE-6F484C]

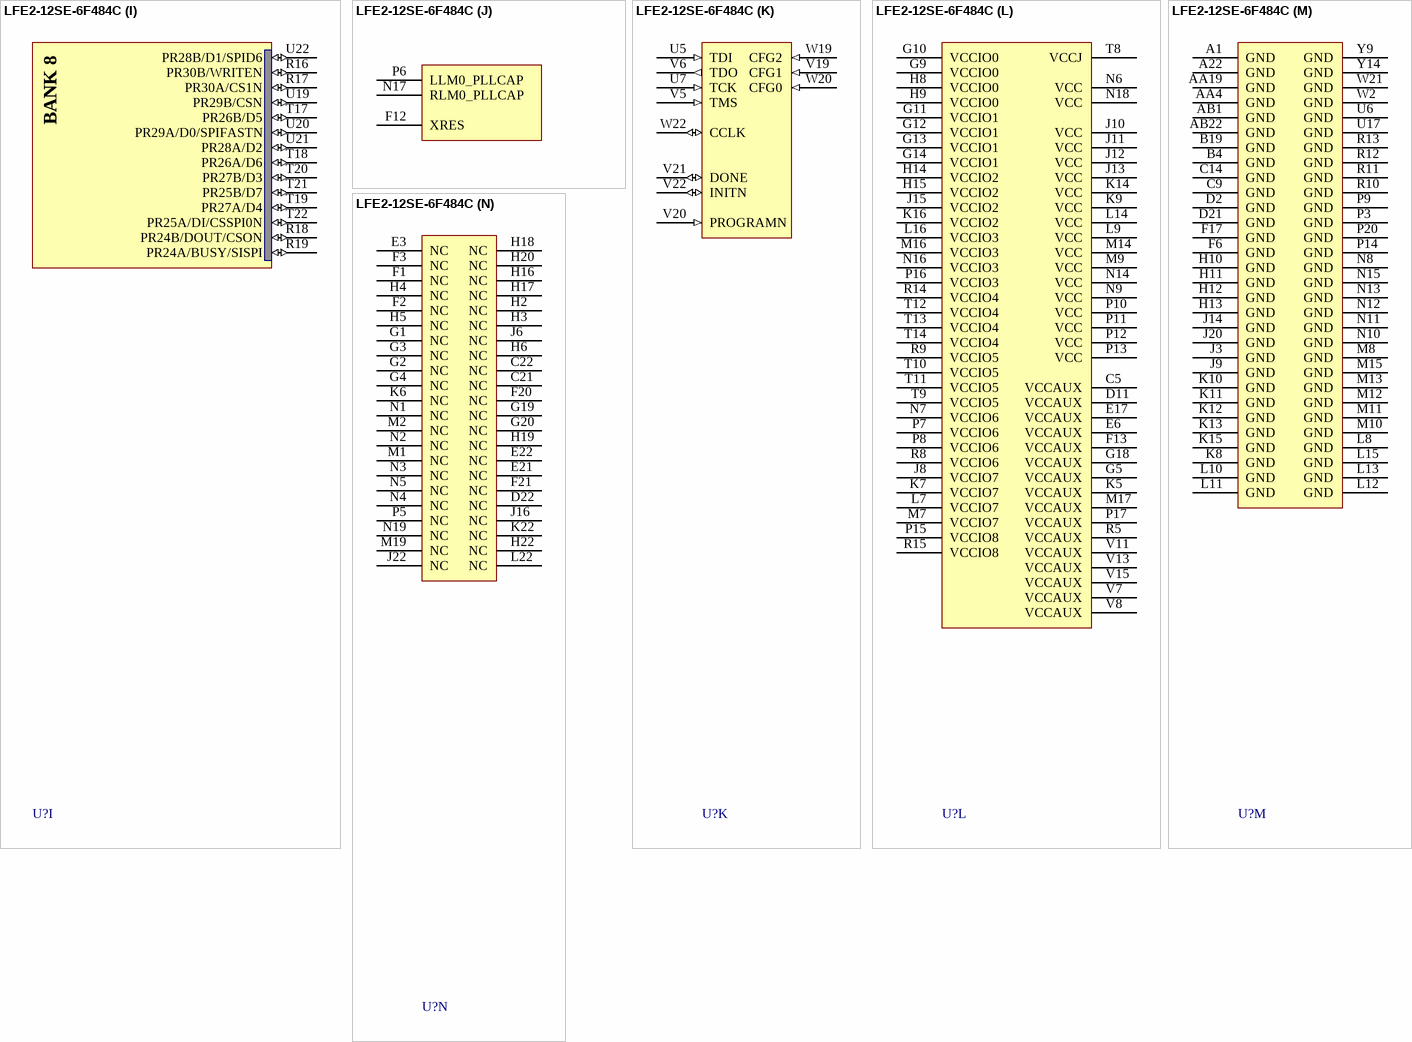
[diagram p107: symbol LFE2-12SE-6F484C]